# Altium integrated library Motorola Microcontroller 16-Bit.IntLib: 323 symbols (part 5 of 21)
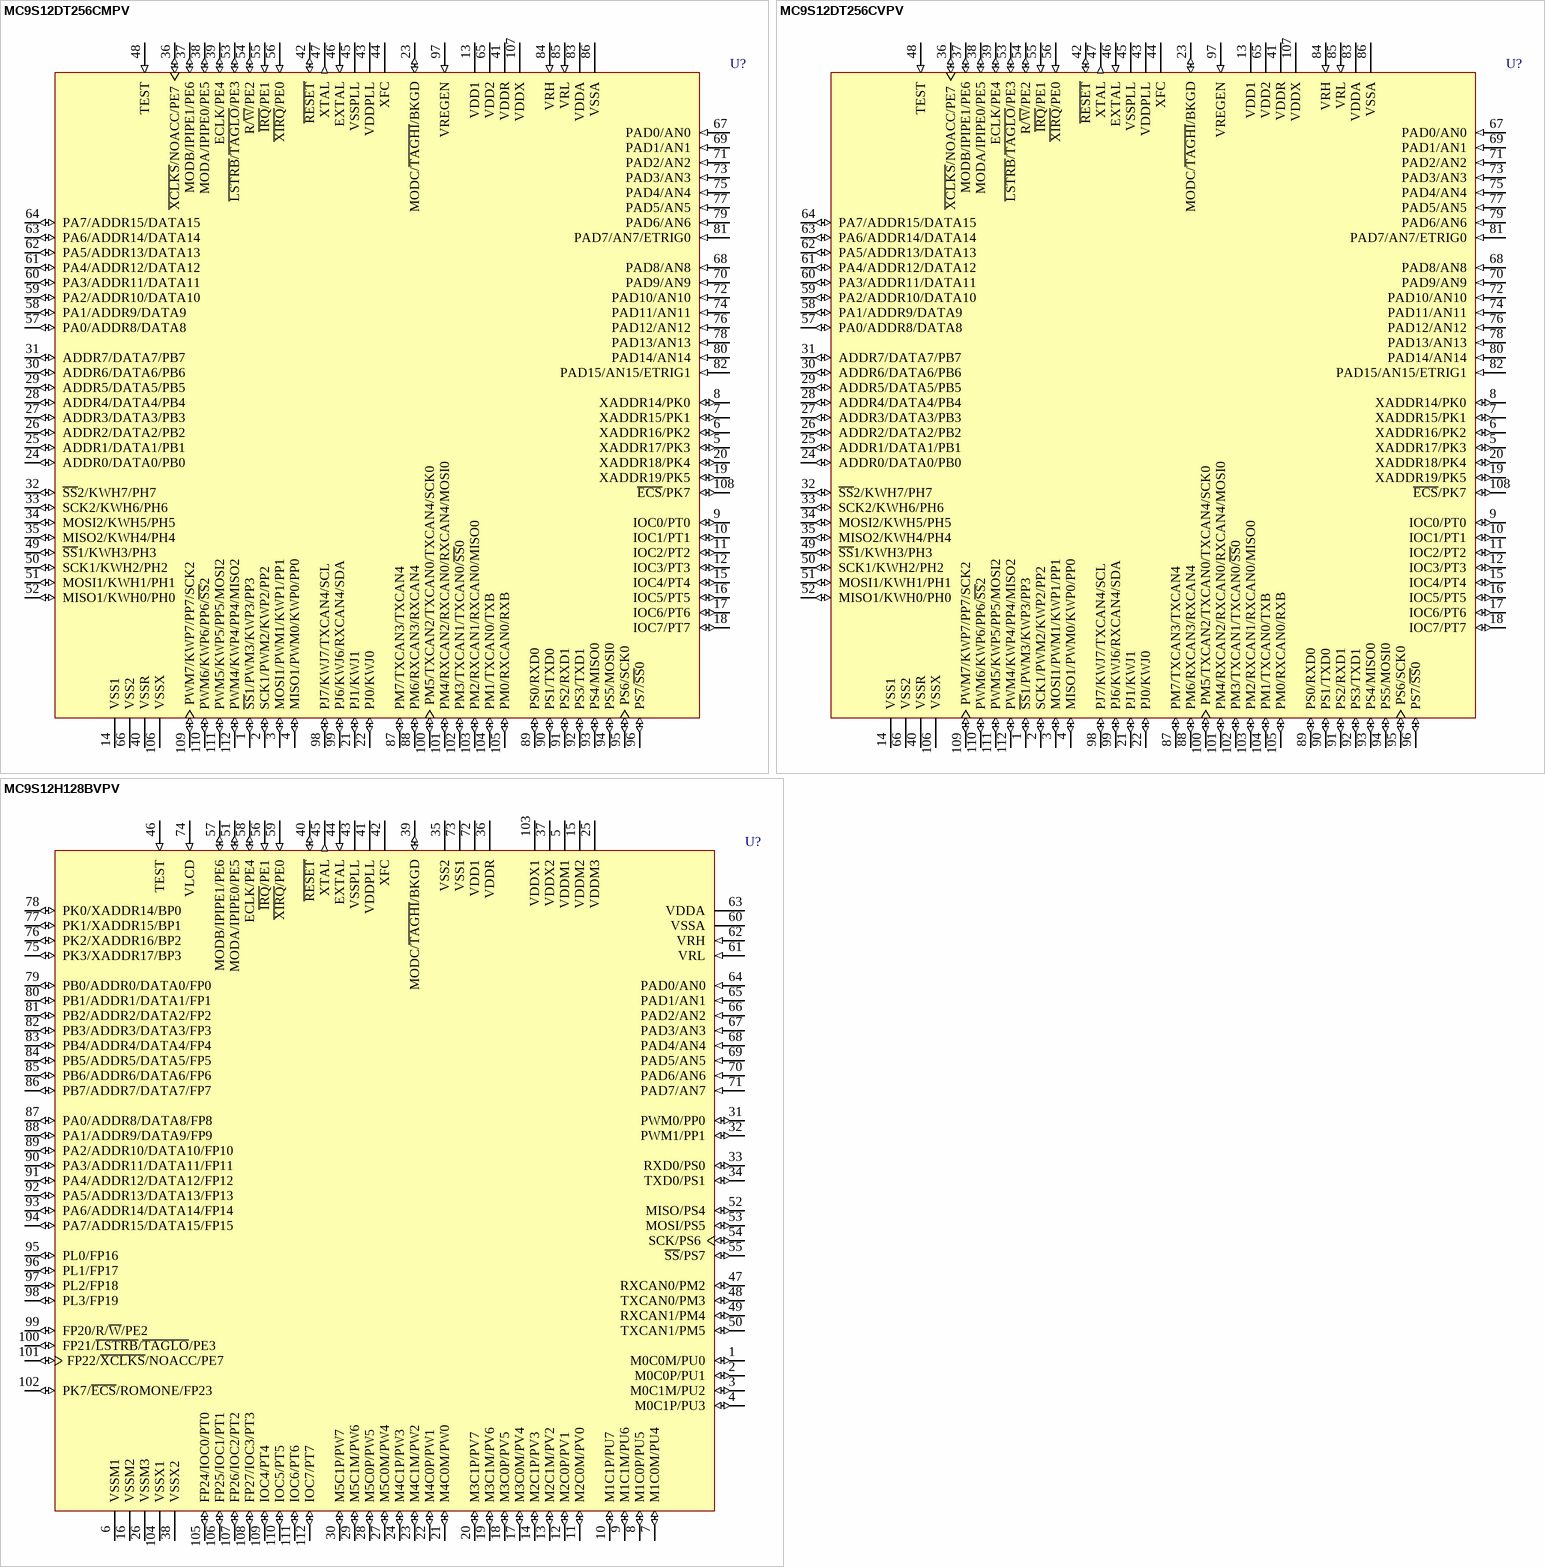
[diagram p145: symbols MC9S12DT256CMPV to MC9S12H128BVPV]

## MC9S12DT256CVPV
designator U?
16-Bit Microcontroller; PackageDocument: rev3.1, Nov-2000; Published: 21-Mar-2003; LatestRevisionDate: 6-Jun-2005; LatestRevisionNote: Stylized 3D Model Added.; DatasheetDocument: 12-Aug-2002; PackageReference: 987-01; Publisher: Altium Limited; ComponentLink1Description: Manufacturer Link; ComponentLink1URL: http://www.freescale.com/; ComponentLink2Description: Datasheet; ComponentLink2URL: http://www.freescale.com/files/microcontrollers/doc/data_sheet/9S12DP256BDGV2.pdf
footprint 987-01 (QFP; 112 Leads; Body 20 x 20 mm; Pitch 0.65 mm)
3D model MC9S12-987-01 (QFP; 112 Leads; Body 20 x 20 mm; Pitch 0.65 mm)
pins: 1 ~{SS}1/PWM3/KWP3/PP3 (io), 2 SCK1/PWM2/KWP2/PP2 (io), 3 MOSI1/PWM1/KWP1/PP1 (io), 4 MISO1/PWM0/KWP0/PP0 (io), 5 XADDR17/PK3 (io), 6 XADDR16/PK2 (io), 7 XADDR15/PK1 (io), 8 XADDR14/PK0 (io), 9 IOC0/PT0 (io), 10 IOC1/PT1 (io), 11 IOC2/PT2 (io), 12 IOC3/PT3 (io), 13 VDD1 (power), 14 VSS1 (power), 15 IOC4/PT4 (io), 16 IOC5/PT5 (io), 17 IOC6/PT6 (io), 18 IOC7/PT7 (io), 19 XADDR19/PK5 (io), 20 XADDR18/PK4 (io), 21 PJ1/KWJ1 (io), 22 PJ0/KWJ0 (io), 23 MODC/~{TAGHI}/BKGD (io), 24 ADDR0/DATA0/PB0 (io), 25 ADDR1/DATA1/PB1 (io), 26 ADDR2/DATA2/PB2 (io), 27 ADDR3/DATA3/PB3 (io), 28 ADDR4/DATA4/PB4 (io), 29 ADDR5/DATA5/PB5 (io), 30 ADDR6/DATA6/PB6 (io), 31 ADDR7/DATA7/PB7 (io), 32 ~{SS}2/KWH7/PH7 (io), 33 SCK2/KWH6/PH6 (io), 34 MOSI2/KWH5/PH5 (io), 35 MISO2/KWH4/PH4 (io), 36 ~{XCLKS}/NOACC/PE7 (io), 37 MODB/IPIPE1/PE6 (io), 38 MODA/IPIPE0/PE5 (io), 39 ECLK/PE4 (io), 40 VSSR (power), 41 VDDR (power), 42 ~{RESET} (io), 43 VDDPLL (power), 44 XFC, 45 VSSPLL (power), 46 EXTAL (in), 47 XTAL (out), 48 TEST (in), 49 ~{SS}1/KWH3/PH3 (io), 50 SCK1/KWH2/PH2 (io), 51 MOSI1/KWH1/PH1 (io), 52 MISO1/KWH0/PH0 (io), 53 ~{LSTRB}/~{TAGLO}/PE3 (io), 54 R/~{W}/PE2 (io), 55 ~{IRQ}/PE1 (in), 56 ~{XIRQ}/PE0 (in), 57 PA0/ADDR8/DATA8 (io), 58 PA1/ADDR9/DATA9 (io), 59 PA2/ADDR10/DATA10 (io), 60 PA3/ADDR11/DATA11 (io), 61 PA4/ADDR12/DATA12 (io), 62 PA5/ADDR13/DATA13 (io), 63 PA6/ADDR14/DATA14 (io), 64 PA7/ADDR15/DATA15 (io), 65 VDD2 (power), 66 VSS2 (power), 67 PAD0/AN0 (in), 68 PAD8/AN8 (in), 69 PAD1/AN1 (in), 70 PAD9/AN9 (in), 71 PAD2/AN2 (in), 72 PAD10/AN10 (in), 73 PAD3/AN3 (in), 74 PAD11/AN11 (in), 75 PAD4/AN4 (in), 76 PAD12/AN12 (in), 77 PAD5/AN5 (in), 78 PAD13/AN13 (in), 79 PAD6/AN6 (in), 80 PAD14/AN14 (in), 81 PAD7/AN7/ETRIG0 (in), 82 PAD15/AN15/ETRIG1 (in), 83 VDDA (power), 84 VRH (in), 85 VRL (in), 86 VSSA (power), 87 PM7/TXCAN3/TXCAN4 (io), 88 PM6/RXCAN3/RXCAN4 (io), 89 PS0/RXD0 (io), 90 PS1/TXD0 (io), 91 PS2/RXD1 (io), 92 PS3/TXD1 (io), 93 PS4/MISO0 (io), 94 PS5/MOSI0 (io), 95 PS6/SCK0 (io), 96 PS7/~{SS}0 (io), 97 VREGEN (in), 98 PJ7/KWJ7/TXCAN4/SCL (io), 99 PJ6/KWJ6/RXCAN4/SDA (io), 100 PM5/TXCAN2/TXCAN0/TXCAN4/SCK0 (io), 101 PM4/RXCAN2/RXCAN0/RXCAN4/MOSI0 (io), 102 PM3/TXCAN1/TXCAN0/~{SS}0 (io), 103 PM2/RXCAN1/RXCAN0/MISO0 (io), 104 PM1/TXCAN0/TXB (io), 105 PM0/RXCAN0/RXB (io), 106 VSSX (power), 107 VDDX (power), 108 ~{ECS}/PK7 (io), 109 PWM7/KWP7/PP7/SCK2 (io), 110 PWM6/KWP6/PP6/~{SS}2 (io), 111 PWM5/KWP5/PP5/MOSI2 (io), 112 PWM4/KWP4/PP4/MISO2 (io)

## MC9S12H128BVPV
designator U?
16-Bit Microcontroller; PackageDocument: rev3.1, Nov-2000; Note: Tie Pin 46 (TEST) to VSS in all applications.; Published: 21-Mar-2003; LatestRevisionDate: 6-Jun-2005; LatestRevisionNote: Stylized 3D Model Added.; DatasheetDocument: 8-Mar-2002; PackageReference: 987-01; Publisher: Altium Limited; ComponentLink1Description: Manufacturer Link; ComponentLink1URL: http://www.freescale.com/
footprint 987-01 (QFP; 112 Leads; Body 20 x 20 mm; Pitch 0.65 mm)
3D model MC9S12-987-01 (QFP; 112 Leads; Body 20 x 20 mm; Pitch 0.65 mm)
pins: 1 M0C0M/PU0 (io), 2 M0C0P/PU1 (io), 3 M0C1M/PU2 (io), 4 M0C1P/PU3 (io), 5 VDDM1 (power), 6 VSSM1 (power), 7 M1C0M/PU4 (io), 8 M1C0P/PU5 (io), 9 M1C1M/PU6 (io), 10 M1C1P/PU7 (io), 11 M2C0M/PV0 (io), 12 M2C0P/PV1 (io), 13 M2C1M/PV2 (io), 14 M2C1P/PV3 (io), 15 VDDM2 (power), 16 VSSM2 (power), 17 M3C0M/PV4 (io), 18 M3C0P/PV5 (io), 19 M3C1M/PV6 (io), 20 M3C1P/PV7 (io), 21 M4C0M/PW0 (io), 22 M4C0P/PW1 (io), 23 M4C1M/PW2 (io), 24 M4C1P/PW3 (io), 25 VDDM3 (power), 26 VSSM3 (power), 27 M5C0M/PW4 (io), 28 M5C0P/PW5 (io), 29 M5C1M/PW6 (io), 30 M5C1P/PW7 (io), 31 PWM0/PP0 (io), 32 PWM1/PP1 (io), 33 RXD0/PS0 (io), 34 TXD0/PS1 (io), 35 VSS2 (power), 36 VDDR (power), 37 VDDX2 (power), 38 VSSX2 (power), 39 MODC/~{TAGHI}/BKGD (io), 40 ~{RESET} (io), 41 VDDPLL (power), 42 XFC, 43 VSSPLL (power), 44 EXTAL (in), 45 XTAL (out), 46 TEST (in), 47 RXCAN0/PM2 (io), 48 TXCAN0/PM3 (io), 49 RXCAN1/PM4 (io), 50 TXCAN1/PM5 (io), 51 MODA/IPIPE0/PE5 (io), 52 MISO/PS4 (io), 53 MOSI/PS5 (io), 54 SCK/PS6 (io), 55 ~{SS}/PS7 (io), 56 ~{IRQ}/PE1 (in), 57 MODB/IPIPE1/PE6 (io), 58 ECLK/PE4 (io), 59 ~{XIRQ}/PE0 (in), 60 VSSA (power), 61 VRL (in), 62 VRH (in), 63 VDDA (power), 64 PAD0/AN0 (in), 65 PAD1/AN1 (in), 66 PAD2/AN2 (in), 67 PAD3/AN3 (in), 68 PAD4/AN4 (in), 69 PAD5/AN5 (in), 70 PAD6/AN6 (in), 71 PAD7/AN7 (in), 72 VDD1 (power), 73 VSS1 (power), 74 VLCD (in), 75 PK3/XADDR17/BP3 (io), 76 PK2/XADDR16/BP2 (io), 77 PK1/XADDR15/BP1 (io), 78 PK0/XADDR14/BP0 (io), 79 PB0/ADDR0/DATA0/FP0 (io), 80 PB1/ADDR1/DATA1/FP1 (io), 81 PB2/ADDR2/DATA2/FP2 (io), 82 PB3/ADDR3/DATA3/FP3 (io), 83 PB4/ADDR4/DATA4/FP4 (io), 84 PB5/ADDR5/DATA5/FP5 (io), 85 PB6/ADDR6/DATA6/FP6 (io), 86 PB7/ADDR7/DATA7/FP7 (io), 87 PA0/ADDR8/DATA8/FP8 (io), 88 PA1/ADDR9/DATA9/FP9 (io), 89 PA2/ADDR10/DATA10/FP10 (io), 90 PA3/ADDR11/DATA11/FP11 (io), 91 PA4/ADDR12/DATA12/FP12 (io), 92 PA5/ADDR13/DATA13/FP13 (io), 93 PA6/ADDR14/DATA14/FP14 (io), 94 PA7/ADDR15/DATA15/FP15 (io), 95 PL0/FP16 (io), 96 PL1/FP17 (io), 97 PL2/FP18 (io), 98 PL3/FP19 (io), 99 FP20/R/~{W}/PE2 (io), 100 FP21/~{LSTRB}/~{TAGLO}/PE3 (io), 101 FP22/~{XCLKS}/NOACC/PE7 (io), 102 PK7/~{ECS}/ROMONE/FP23 (io), 103 VDDX1 (power), 104 VSSX1 (power), 105 FP24/IOC0/PT0 (io), 106 FP25/IOC1/PT1 (io), 107 FP26/IOC2/PT2 (io), 108 FP27/IOC3/PT3 (io), 109 IOC4/PT4 (io), 110 IOC5/PT5 (io), 111 IOC6/PT6 (io), 112 IOC7/PT7 (io)

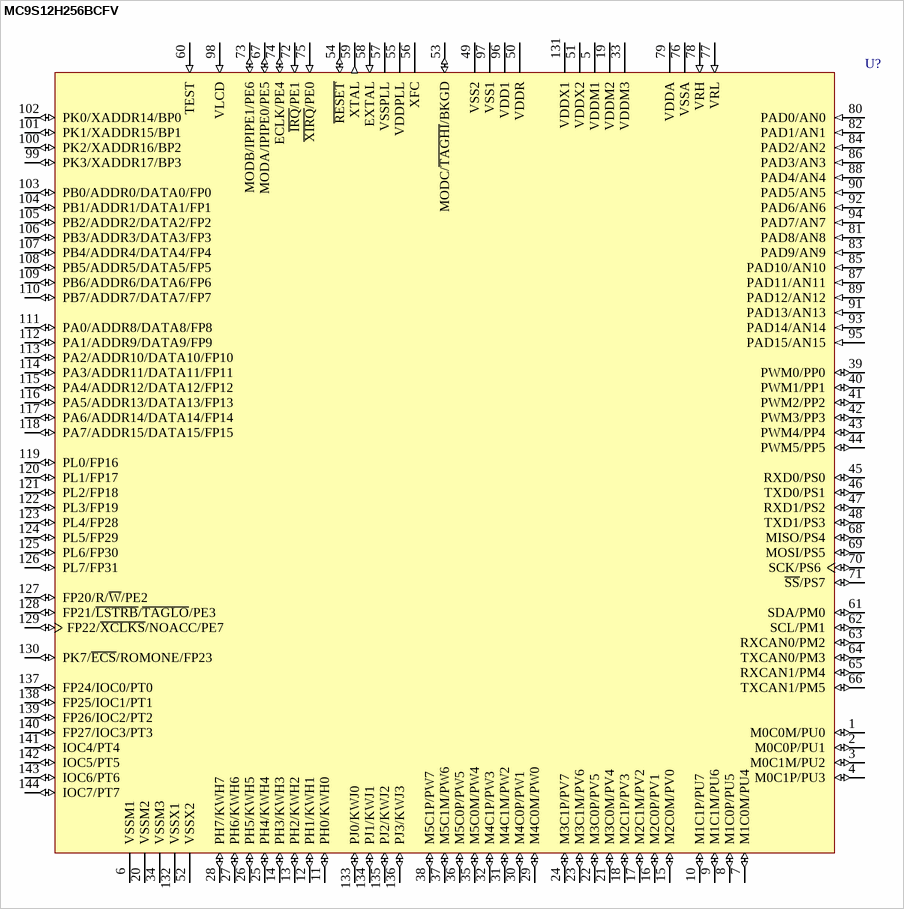
[diagram p18: symbol MC9S12H256BCFV]

## MC9S12H256BCFV
designator U?
16-Bit Microcontroller; PackageDocument: rev7, Jan-2002; Note: Tie Pin 60 (TEST) to VSS in all applications.; Published: 21-Mar-2003; LatestRevisionDate: 6-Jun-2005; LatestRevisionNote: Stylized 3D Model Added.; DatasheetDocument: 8-Mar-2002; PackageReference: 918-03; Publisher: Altium Limited; Code_IPC: SQFP20X20-144; ComponentLink1Description: Manufacturer Link; ComponentLink1URL: http://www.freescale.com/
footprint 918-03 (QFP; 144 Leads; Body 20 x 20 mm; Pitch 0.5 mm)
3D model MC9S12-918-03 (QFP; 144 Leads; Body 20 x 20 mm; Pitch 0.5 mm)
pins: 1 M0C0M/PU0 (io), 2 M0C0P/PU1 (io), 3 M0C1M/PU2 (io), 4 M0C1P/PU3 (io), 5 VDDM1 (power), 6 VSSM1 (power), 7 M1C0M/PU4 (io), 8 M1C0P/PU5 (io), 9 M1C1M/PU6 (io), 10 M1C1P/PU7 (io), 11 PH0/KWH0 (io), 12 PH1/KWH1 (io), 13 PH2/KWH2 (io), 14 PH3/KWH3 (io), 15 M2C0M/PV0 (io), 16 M2C0P/PV1 (io), 17 M2C1M/PV2 (io), 18 M2C1P/PV3 (io), 19 VDDM2 (power), 20 VSSM2 (power), 21 M3C0M/PV4 (io), 22 M3C0P/PV5 (io), 23 M3C1M/PV6 (io), 24 M3C1P/PV7 (io), 25 PH4/KWH4 (io), 26 PH5/KWH5 (io), 27 PH6/KWH6 (io), 28 PH7/KWH7 (io), 29 M4C0M/PW0 (io), 30 M4C0P/PW1 (io), 31 M4C1M/PW2 (io), 32 M4C1P/PW3 (io), 33 VDDM3 (power), 34 VSSM3 (power), 35 M5C0M/PW4 (io), 36 M5C0P/PW5 (io), 37 M5C1M/PW6 (io), 38 M5C1P/PW7 (io), 39 PWM0/PP0 (io), 40 PWM1/PP1 (io), 41 PWM2/PP2 (io), 42 PWM3/PP3 (io), 43 PWM4/PP4 (io), 44 PWM5/PP5 (io), 45 RXD0/PS0 (io), 46 TXD0/PS1 (io), 47 RXD1/PS2 (io), 48 TXD1/PS3 (io), 49 VSS2 (power), 50 VDDR (power), 51 VDDX2 (power), 52 VSSX2 (power), 53 MODC/~{TAGHI}/BKGD (io), 54 ~{RESET} (io), 55 VDDPLL (power), 56 XFC, 57 VSSPLL (power), 58 EXTAL (in), 59 XTAL (out), 60 TEST (in), 61 SDA/PM0 (io), 62 SCL/PM1 (io), 63 RXCAN0/PM2 (io), 64 TXCAN0/PM3 (io), 65 RXCAN1/PM4 (io), 66 TXCAN1/PM5 (io), 67 MODA/IPIPE0/PE5 (io), 68 MISO/PS4 (io), 69 MOSI/PS5 (io), 70 SCK/PS6 (io), 71 ~{SS}/PS7 (io), 72 ~{IRQ}/PE1 (in), 73 MODB/IPIPE1/PE6 (io), 74 ECLK/PE4 (io), 75 ~{XIRQ}/PE0 (in), 76 VSSA (power), 77 VRL (in), 78 VRH (in), 79 VDDA (power), 80 PAD0/AN0 (in), 81 PAD8/AN8 (in), 82 PAD1/AN1 (in), 83 PAD9/AN9 (in), 84 PAD2/AN2 (in), 85 PAD10/AN10 (in), 86 PAD3/AN3 (in), 87 PAD11/AN11 (in), 88 PAD4/AN4 (in), 89 PAD12/AN12 (in), 90 PAD5/AN5 (in), 91 PAD13/AN13 (in), 92 PAD6/AN6 (in), 93 PAD14/AN14 (in), 94 PAD7/AN7 (in), 95 PAD15/AN15 (in), 96 VDD1 (power), 97 VSS1 (power), 98 VLCD (in), 99 PK3/XADDR17/BP3 (io), 100 PK2/XADDR16/BP2 (io), 101 PK1/XADDR15/BP1 (io), 102 PK0/XADDR14/BP0 (io), 103 PB0/ADDR0/DATA0/FP0 (io), 104 PB1/ADDR1/DATA1/FP1 (io), 105 PB2/ADDR2/DATA2/FP2 (io), 106 PB3/ADDR3/DATA3/FP3 (io), 107 PB4/ADDR4/DATA4/FP4 (io), 108 PB5/ADDR5/DATA5/FP5 (io), 109 PB6/ADDR6/DATA6/FP6 (io), 110 PB7/ADDR7/DATA7/FP7 (io), 111 PA0/ADDR8/DATA8/FP8 (io), 112 PA1/ADDR9/DATA9/FP9 (io), 113 PA2/ADDR10/DATA10/FP10 (io), 114 PA3/ADDR11/DATA11/FP11 (io), 115 PA4/ADDR12/DATA12/FP12 (io), 116 PA5/ADDR13/DATA13/FP13 (io), 117 PA6/ADDR14/DATA14/FP14 (io), 118 PA7/ADDR15/DATA15/FP15 (io), 119 PL0/FP16 (io), 120 PL1/FP17 (io), 121 PL2/FP18 (io), 122 PL3/FP19 (io), 123 PL4/FP28 (io), 124 PL5/FP29 (io), 125 PL6/FP30 (io), 126 PL7/FP31 (io), 127 FP20/R/~{W}/PE2 (io), 128 FP21/~{LSTRB}/~{TAGLO}/PE3 (io), 129 FP22/~{XCLKS}/NOACC/PE7 (io), 130 PK7/~{ECS}/ROMONE/FP23 (io), 131 VDDX1 (power), 132 VSSX1 (power), 133 PJ0/KWJ0 (io), 134 PJ1/KWJ1 (io), 135 PJ2/KWJ2 (io), 136 PJ3/KWJ3 (io), 137 FP24/IOC0/PT0 (io), 138 FP25/IOC1/PT1 (io), 139 FP26/IOC2/PT2 (io), 140 FP27/IOC3/PT3 (io), 141 IOC4/PT4 (io), 142 IOC5/PT5 (io), 143 IOC6/PT6 (io), 144 IOC7/PT7 (io)

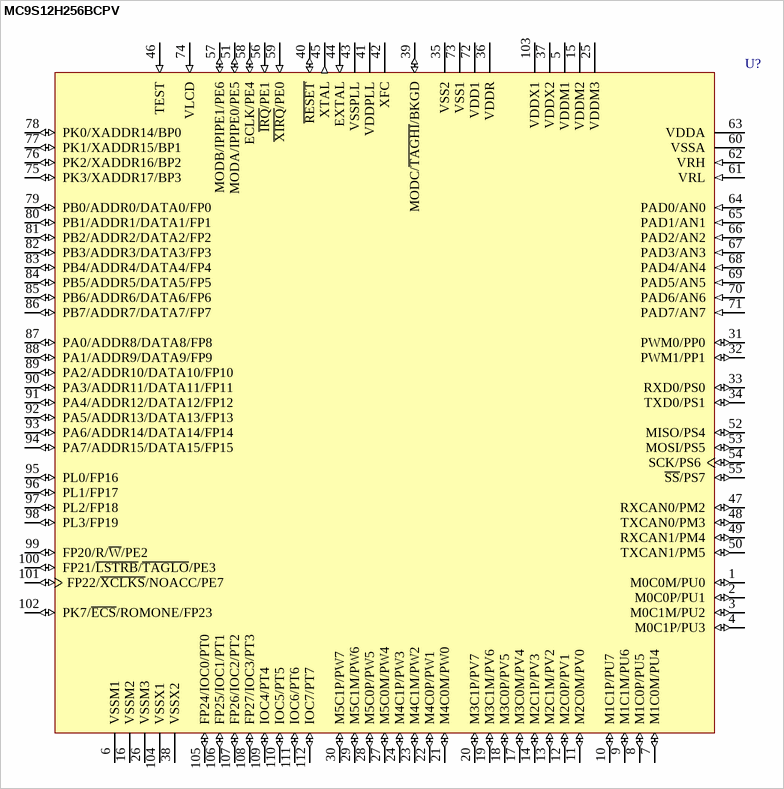
[diagram p19: symbol MC9S12H256BCPV]

## MC9S12H256BCPV
designator U?
16-Bit Microcontroller; PackageDocument: rev3.1, Nov-2000; Note: Tie Pin 46 (TEST) to VSS in all applications.; Published: 21-Mar-2003; LatestRevisionDate: 6-Jun-2005; LatestRevisionNote: Stylized 3D Model Added.; DatasheetDocument: 8-Mar-2002; PackageReference: 987-01; Publisher: Altium Limited; ComponentLink1Description: Manufacturer Link; ComponentLink1URL: http://www.freescale.com/
footprint 987-01 (QFP; 112 Leads; Body 20 x 20 mm; Pitch 0.65 mm)
3D model MC9S12-987-01 (QFP; 112 Leads; Body 20 x 20 mm; Pitch 0.65 mm)
pins: 1 M0C0M/PU0 (io), 2 M0C0P/PU1 (io), 3 M0C1M/PU2 (io), 4 M0C1P/PU3 (io), 5 VDDM1 (power), 6 VSSM1 (power), 7 M1C0M/PU4 (io), 8 M1C0P/PU5 (io), 9 M1C1M/PU6 (io), 10 M1C1P/PU7 (io), 11 M2C0M/PV0 (io), 12 M2C0P/PV1 (io), 13 M2C1M/PV2 (io), 14 M2C1P/PV3 (io), 15 VDDM2 (power), 16 VSSM2 (power), 17 M3C0M/PV4 (io), 18 M3C0P/PV5 (io), 19 M3C1M/PV6 (io), 20 M3C1P/PV7 (io), 21 M4C0M/PW0 (io), 22 M4C0P/PW1 (io), 23 M4C1M/PW2 (io), 24 M4C1P/PW3 (io), 25 VDDM3 (power), 26 VSSM3 (power), 27 M5C0M/PW4 (io), 28 M5C0P/PW5 (io), 29 M5C1M/PW6 (io), 30 M5C1P/PW7 (io), 31 PWM0/PP0 (io), 32 PWM1/PP1 (io), 33 RXD0/PS0 (io), 34 TXD0/PS1 (io), 35 VSS2 (power), 36 VDDR (power), 37 VDDX2 (power), 38 VSSX2 (power), 39 MODC/~{TAGHI}/BKGD (io), 40 ~{RESET} (io), 41 VDDPLL (power), 42 XFC, 43 VSSPLL (power), 44 EXTAL (in), 45 XTAL (out), 46 TEST (in), 47 RXCAN0/PM2 (io), 48 TXCAN0/PM3 (io), 49 RXCAN1/PM4 (io), 50 TXCAN1/PM5 (io), 51 MODA/IPIPE0/PE5 (io), 52 MISO/PS4 (io), 53 MOSI/PS5 (io), 54 SCK/PS6 (io), 55 ~{SS}/PS7 (io), 56 ~{IRQ}/PE1 (in), 57 MODB/IPIPE1/PE6 (io), 58 ECLK/PE4 (io), 59 ~{XIRQ}/PE0 (in), 60 VSSA (power), 61 VRL (in), 62 VRH (in), 63 VDDA (power), 64 PAD0/AN0 (in), 65 PAD1/AN1 (in), 66 PAD2/AN2 (in), 67 PAD3/AN3 (in), 68 PAD4/AN4 (in), 69 PAD5/AN5 (in), 70 PAD6/AN6 (in), 71 PAD7/AN7 (in), 72 VDD1 (power), 73 VSS1 (power), 74 VLCD (in), 75 PK3/XADDR17/BP3 (io), 76 PK2/XADDR16/BP2 (io), 77 PK1/XADDR15/BP1 (io), 78 PK0/XADDR14/BP0 (io), 79 PB0/ADDR0/DATA0/FP0 (io), 80 PB1/ADDR1/DATA1/FP1 (io), 81 PB2/ADDR2/DATA2/FP2 (io), 82 PB3/ADDR3/DATA3/FP3 (io), 83 PB4/ADDR4/DATA4/FP4 (io), 84 PB5/ADDR5/DATA5/FP5 (io), 85 PB6/ADDR6/DATA6/FP6 (io), 86 PB7/ADDR7/DATA7/FP7 (io), 87 PA0/ADDR8/DATA8/FP8 (io), 88 PA1/ADDR9/DATA9/FP9 (io), 89 PA2/ADDR10/DATA10/FP10 (io), 90 PA3/ADDR11/DATA11/FP11 (io), 91 PA4/ADDR12/DATA12/FP12 (io), 92 PA5/ADDR13/DATA13/FP13 (io), 93 PA6/ADDR14/DATA14/FP14 (io), 94 PA7/ADDR15/DATA15/FP15 (io), 95 PL0/FP16 (io), 96 PL1/FP17 (io), 97 PL2/FP18 (io), 98 PL3/FP19 (io), 99 FP20/R/~{W}/PE2 (io), 100 FP21/~{LSTRB}/~{TAGLO}/PE3 (io), 101 FP22/~{XCLKS}/NOACC/PE7 (io), 102 PK7/~{ECS}/ROMONE/FP23 (io), 103 VDDX1 (power), 104 VSSX1 (power), 105 FP24/IOC0/PT0 (io), 106 FP25/IOC1/PT1 (io), 107 FP26/IOC2/PT2 (io), 108 FP27/IOC3/PT3 (io), 109 IOC4/PT4 (io), 110 IOC5/PT5 (io), 111 IOC6/PT6 (io), 112 IOC7/PT7 (io)

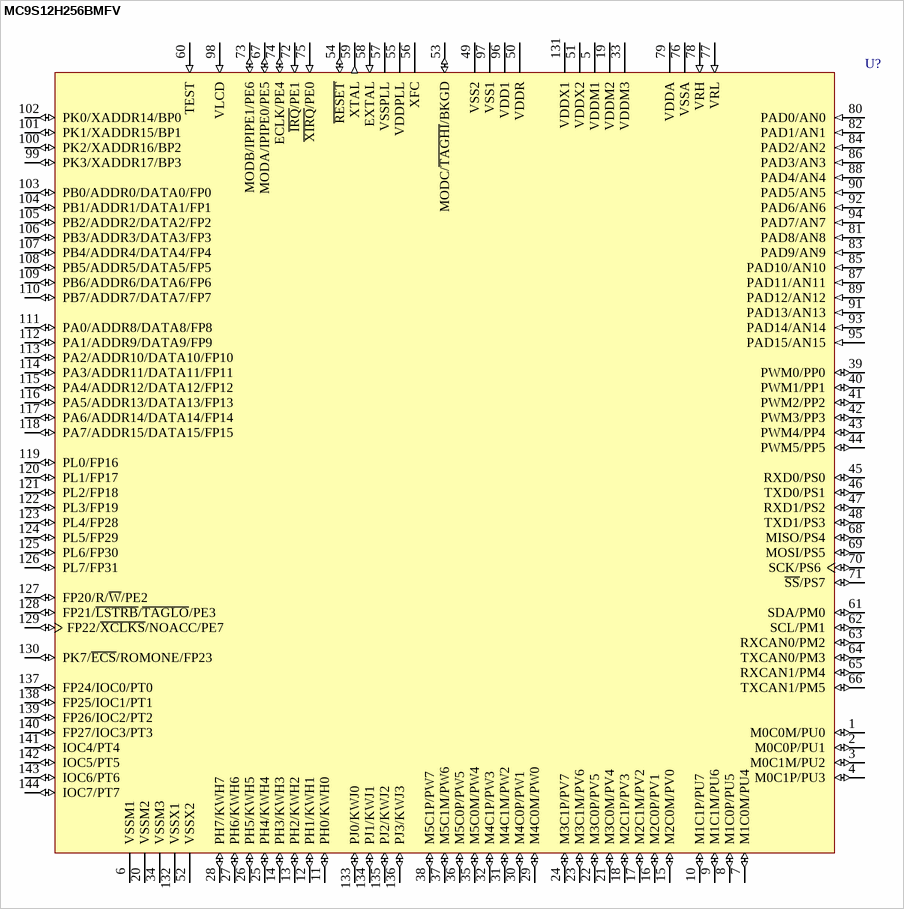
[diagram p20: symbol MC9S12H256BMFV]

## MC9S12H256BMFV
designator U?
16-Bit Microcontroller; PackageDocument: rev7, Jan-2002; Note: Tie Pin 60 (TEST) to VSS in all applications.; Published: 21-Mar-2003; LatestRevisionDate: 6-Jun-2005; LatestRevisionNote: Stylized 3D Model Added.; DatasheetDocument: 8-Mar-2002; PackageReference: 918-03; Publisher: Altium Limited; Code_IPC: SQFP20X20-144; ComponentLink1Description: Manufacturer Link; ComponentLink1URL: http://www.freescale.com/
footprint 918-03 (QFP; 144 Leads; Body 20 x 20 mm; Pitch 0.5 mm)
3D model MC9S12-918-03 (QFP; 144 Leads; Body 20 x 20 mm; Pitch 0.5 mm)
pins: 1 M0C0M/PU0 (io), 2 M0C0P/PU1 (io), 3 M0C1M/PU2 (io), 4 M0C1P/PU3 (io), 5 VDDM1 (power), 6 VSSM1 (power), 7 M1C0M/PU4 (io), 8 M1C0P/PU5 (io), 9 M1C1M/PU6 (io), 10 M1C1P/PU7 (io), 11 PH0/KWH0 (io), 12 PH1/KWH1 (io), 13 PH2/KWH2 (io), 14 PH3/KWH3 (io), 15 M2C0M/PV0 (io), 16 M2C0P/PV1 (io), 17 M2C1M/PV2 (io), 18 M2C1P/PV3 (io), 19 VDDM2 (power), 20 VSSM2 (power), 21 M3C0M/PV4 (io), 22 M3C0P/PV5 (io), 23 M3C1M/PV6 (io), 24 M3C1P/PV7 (io), 25 PH4/KWH4 (io), 26 PH5/KWH5 (io), 27 PH6/KWH6 (io), 28 PH7/KWH7 (io), 29 M4C0M/PW0 (io), 30 M4C0P/PW1 (io), 31 M4C1M/PW2 (io), 32 M4C1P/PW3 (io), 33 VDDM3 (power), 34 VSSM3 (power), 35 M5C0M/PW4 (io), 36 M5C0P/PW5 (io), 37 M5C1M/PW6 (io), 38 M5C1P/PW7 (io), 39 PWM0/PP0 (io), 40 PWM1/PP1 (io), 41 PWM2/PP2 (io), 42 PWM3/PP3 (io), 43 PWM4/PP4 (io), 44 PWM5/PP5 (io), 45 RXD0/PS0 (io), 46 TXD0/PS1 (io), 47 RXD1/PS2 (io), 48 TXD1/PS3 (io), 49 VSS2 (power), 50 VDDR (power), 51 VDDX2 (power), 52 VSSX2 (power), 53 MODC/~{TAGHI}/BKGD (io), 54 ~{RESET} (io), 55 VDDPLL (power), 56 XFC, 57 VSSPLL (power), 58 EXTAL (in), 59 XTAL (out), 60 TEST (in), 61 SDA/PM0 (io), 62 SCL/PM1 (io), 63 RXCAN0/PM2 (io), 64 TXCAN0/PM3 (io), 65 RXCAN1/PM4 (io), 66 TXCAN1/PM5 (io), 67 MODA/IPIPE0/PE5 (io), 68 MISO/PS4 (io), 69 MOSI/PS5 (io), 70 SCK/PS6 (io), 71 ~{SS}/PS7 (io), 72 ~{IRQ}/PE1 (in), 73 MODB/IPIPE1/PE6 (io), 74 ECLK/PE4 (io), 75 ~{XIRQ}/PE0 (in), 76 VSSA (power), 77 VRL (in), 78 VRH (in), 79 VDDA (power), 80 PAD0/AN0 (in), 81 PAD8/AN8 (in), 82 PAD1/AN1 (in), 83 PAD9/AN9 (in), 84 PAD2/AN2 (in), 85 PAD10/AN10 (in), 86 PAD3/AN3 (in), 87 PAD11/AN11 (in), 88 PAD4/AN4 (in), 89 PAD12/AN12 (in), 90 PAD5/AN5 (in), 91 PAD13/AN13 (in), 92 PAD6/AN6 (in), 93 PAD14/AN14 (in), 94 PAD7/AN7 (in), 95 PAD15/AN15 (in), 96 VDD1 (power), 97 VSS1 (power), 98 VLCD (in), 99 PK3/XADDR17/BP3 (io), 100 PK2/XADDR16/BP2 (io), 101 PK1/XADDR15/BP1 (io), 102 PK0/XADDR14/BP0 (io), 103 PB0/ADDR0/DATA0/FP0 (io), 104 PB1/ADDR1/DATA1/FP1 (io), 105 PB2/ADDR2/DATA2/FP2 (io), 106 PB3/ADDR3/DATA3/FP3 (io), 107 PB4/ADDR4/DATA4/FP4 (io), 108 PB5/ADDR5/DATA5/FP5 (io), 109 PB6/ADDR6/DATA6/FP6 (io), 110 PB7/ADDR7/DATA7/FP7 (io), 111 PA0/ADDR8/DATA8/FP8 (io), 112 PA1/ADDR9/DATA9/FP9 (io), 113 PA2/ADDR10/DATA10/FP10 (io), 114 PA3/ADDR11/DATA11/FP11 (io), 115 PA4/ADDR12/DATA12/FP12 (io), 116 PA5/ADDR13/DATA13/FP13 (io), 117 PA6/ADDR14/DATA14/FP14 (io), 118 PA7/ADDR15/DATA15/FP15 (io), 119 PL0/FP16 (io), 120 PL1/FP17 (io), 121 PL2/FP18 (io), 122 PL3/FP19 (io), 123 PL4/FP28 (io), 124 PL5/FP29 (io), 125 PL6/FP30 (io), 126 PL7/FP31 (io), 127 FP20/R/~{W}/PE2 (io), 128 FP21/~{LSTRB}/~{TAGLO}/PE3 (io), 129 FP22/~{XCLKS}/NOACC/PE7 (io), 130 PK7/~{ECS}/ROMONE/FP23 (io), 131 VDDX1 (power), 132 VSSX1 (power), 133 PJ0/KWJ0 (io), 134 PJ1/KWJ1 (io), 135 PJ2/KWJ2 (io), 136 PJ3/KWJ3 (io), 137 FP24/IOC0/PT0 (io), 138 FP25/IOC1/PT1 (io), 139 FP26/IOC2/PT2 (io), 140 FP27/IOC3/PT3 (io), 141 IOC4/PT4 (io), 142 IOC5/PT5 (io), 143 IOC6/PT6 (io), 144 IOC7/PT7 (io)

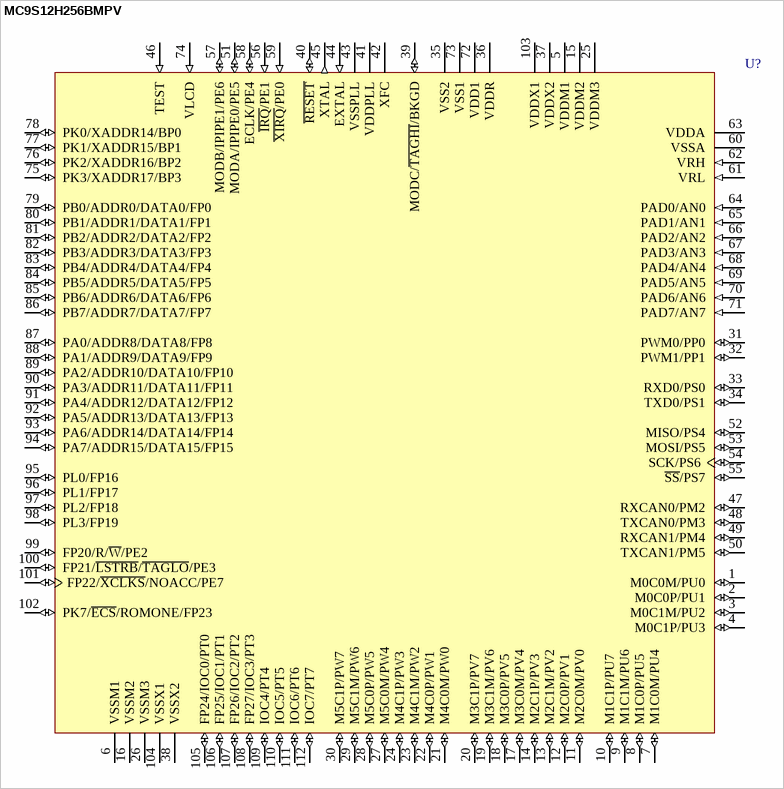
[diagram p21: symbol MC9S12H256BMPV]

## MC9S12H256BMPV
designator U?
16-Bit Microcontroller; PackageDocument: rev3.1, Nov-2000; Note: Tie Pin 46 (TEST) to VSS in all applications.; Published: 21-Mar-2003; LatestRevisionDate: 6-Jun-2005; LatestRevisionNote: Stylized 3D Model Added.; DatasheetDocument: 8-Mar-2002; PackageReference: 987-01; Publisher: Altium Limited; ComponentLink1Description: Manufacturer Link; ComponentLink1URL: http://www.freescale.com/
footprint 987-01 (QFP; 112 Leads; Body 20 x 20 mm; Pitch 0.65 mm)
3D model MC9S12-987-01 (QFP; 112 Leads; Body 20 x 20 mm; Pitch 0.65 mm)
pins: 1 M0C0M/PU0 (io), 2 M0C0P/PU1 (io), 3 M0C1M/PU2 (io), 4 M0C1P/PU3 (io), 5 VDDM1 (power), 6 VSSM1 (power), 7 M1C0M/PU4 (io), 8 M1C0P/PU5 (io), 9 M1C1M/PU6 (io), 10 M1C1P/PU7 (io), 11 M2C0M/PV0 (io), 12 M2C0P/PV1 (io), 13 M2C1M/PV2 (io), 14 M2C1P/PV3 (io), 15 VDDM2 (power), 16 VSSM2 (power), 17 M3C0M/PV4 (io), 18 M3C0P/PV5 (io), 19 M3C1M/PV6 (io), 20 M3C1P/PV7 (io), 21 M4C0M/PW0 (io), 22 M4C0P/PW1 (io), 23 M4C1M/PW2 (io), 24 M4C1P/PW3 (io), 25 VDDM3 (power), 26 VSSM3 (power), 27 M5C0M/PW4 (io), 28 M5C0P/PW5 (io), 29 M5C1M/PW6 (io), 30 M5C1P/PW7 (io), 31 PWM0/PP0 (io), 32 PWM1/PP1 (io), 33 RXD0/PS0 (io), 34 TXD0/PS1 (io), 35 VSS2 (power), 36 VDDR (power), 37 VDDX2 (power), 38 VSSX2 (power), 39 MODC/~{TAGHI}/BKGD (io), 40 ~{RESET} (io), 41 VDDPLL (power), 42 XFC, 43 VSSPLL (power), 44 EXTAL (in), 45 XTAL (out), 46 TEST (in), 47 RXCAN0/PM2 (io), 48 TXCAN0/PM3 (io), 49 RXCAN1/PM4 (io), 50 TXCAN1/PM5 (io), 51 MODA/IPIPE0/PE5 (io), 52 MISO/PS4 (io), 53 MOSI/PS5 (io), 54 SCK/PS6 (io), 55 ~{SS}/PS7 (io), 56 ~{IRQ}/PE1 (in), 57 MODB/IPIPE1/PE6 (io), 58 ECLK/PE4 (io), 59 ~{XIRQ}/PE0 (in), 60 VSSA (power), 61 VRL (in), 62 VRH (in), 63 VDDA (power), 64 PAD0/AN0 (in), 65 PAD1/AN1 (in), 66 PAD2/AN2 (in), 67 PAD3/AN3 (in), 68 PAD4/AN4 (in), 69 PAD5/AN5 (in), 70 PAD6/AN6 (in), 71 PAD7/AN7 (in), 72 VDD1 (power), 73 VSS1 (power), 74 VLCD (in), 75 PK3/XADDR17/BP3 (io), 76 PK2/XADDR16/BP2 (io), 77 PK1/XADDR15/BP1 (io), 78 PK0/XADDR14/BP0 (io), 79 PB0/ADDR0/DATA0/FP0 (io), 80 PB1/ADDR1/DATA1/FP1 (io), 81 PB2/ADDR2/DATA2/FP2 (io), 82 PB3/ADDR3/DATA3/FP3 (io), 83 PB4/ADDR4/DATA4/FP4 (io), 84 PB5/ADDR5/DATA5/FP5 (io), 85 PB6/ADDR6/DATA6/FP6 (io), 86 PB7/ADDR7/DATA7/FP7 (io), 87 PA0/ADDR8/DATA8/FP8 (io), 88 PA1/ADDR9/DATA9/FP9 (io), 89 PA2/ADDR10/DATA10/FP10 (io), 90 PA3/ADDR11/DATA11/FP11 (io), 91 PA4/ADDR12/DATA12/FP12 (io), 92 PA5/ADDR13/DATA13/FP13 (io), 93 PA6/ADDR14/DATA14/FP14 (io), 94 PA7/ADDR15/DATA15/FP15 (io), 95 PL0/FP16 (io), 96 PL1/FP17 (io), 97 PL2/FP18 (io), 98 PL3/FP19 (io), 99 FP20/R/~{W}/PE2 (io), 100 FP21/~{LSTRB}/~{TAGLO}/PE3 (io), 101 FP22/~{XCLKS}/NOACC/PE7 (io), 102 PK7/~{ECS}/ROMONE/FP23 (io), 103 VDDX1 (power), 104 VSSX1 (power), 105 FP24/IOC0/PT0 (io), 106 FP25/IOC1/PT1 (io), 107 FP26/IOC2/PT2 (io), 108 FP27/IOC3/PT3 (io), 109 IOC4/PT4 (io), 110 IOC5/PT5 (io), 111 IOC6/PT6 (io), 112 IOC7/PT7 (io)

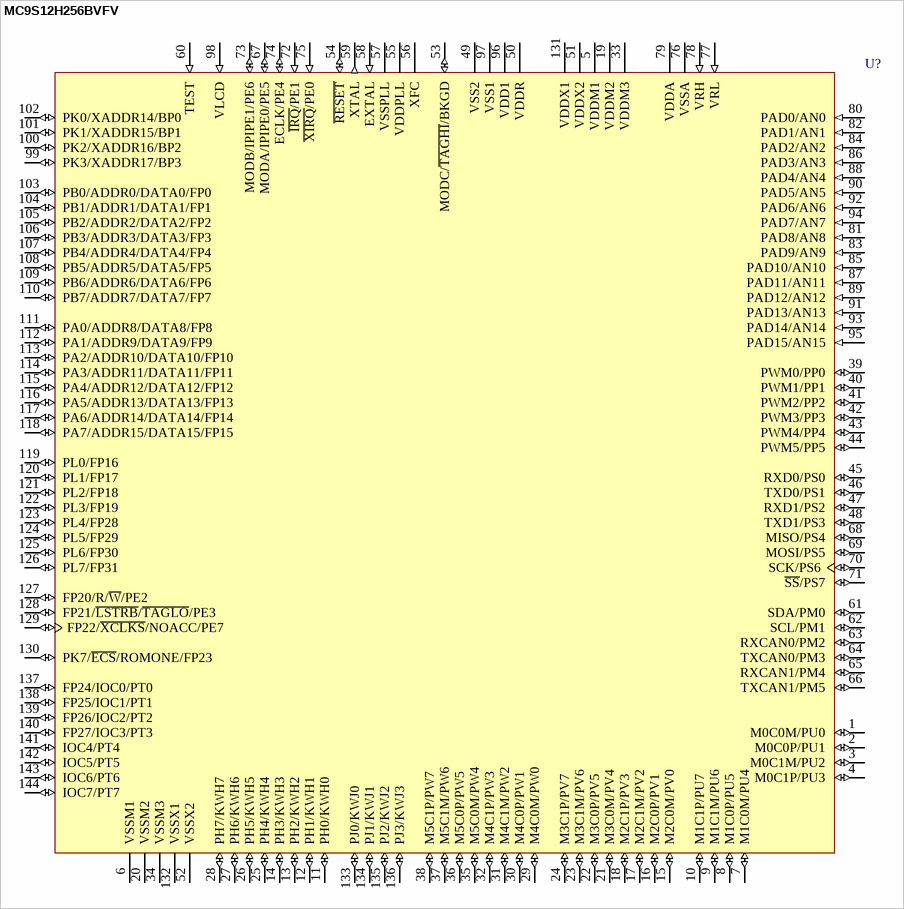
[diagram p22: symbol MC9S12H256BVFV]

## MC9S12H256BVFV
designator U?
16-Bit Microcontroller; PackageDocument: rev7, Jan-2002; Note: Tie Pin 60 (TEST) to VSS in all applications.; Published: 21-Mar-2003; LatestRevisionDate: 6-Jun-2005; LatestRevisionNote: Stylized 3D Model Added.; DatasheetDocument: 8-Mar-2002; PackageReference: 918-03; Publisher: Altium Limited; Code_IPC: SQFP20X20-144; ComponentLink1Description: Manufacturer Link; ComponentLink1URL: http://www.freescale.com/
footprint 918-03 (QFP; 144 Leads; Body 20 x 20 mm; Pitch 0.5 mm)
3D model MC9S12-918-03 (QFP; 144 Leads; Body 20 x 20 mm; Pitch 0.5 mm)
pins: 1 M0C0M/PU0 (io), 2 M0C0P/PU1 (io), 3 M0C1M/PU2 (io), 4 M0C1P/PU3 (io), 5 VDDM1 (power), 6 VSSM1 (power), 7 M1C0M/PU4 (io), 8 M1C0P/PU5 (io), 9 M1C1M/PU6 (io), 10 M1C1P/PU7 (io), 11 PH0/KWH0 (io), 12 PH1/KWH1 (io), 13 PH2/KWH2 (io), 14 PH3/KWH3 (io), 15 M2C0M/PV0 (io), 16 M2C0P/PV1 (io), 17 M2C1M/PV2 (io), 18 M2C1P/PV3 (io), 19 VDDM2 (power), 20 VSSM2 (power), 21 M3C0M/PV4 (io), 22 M3C0P/PV5 (io), 23 M3C1M/PV6 (io), 24 M3C1P/PV7 (io), 25 PH4/KWH4 (io), 26 PH5/KWH5 (io), 27 PH6/KWH6 (io), 28 PH7/KWH7 (io), 29 M4C0M/PW0 (io), 30 M4C0P/PW1 (io), 31 M4C1M/PW2 (io), 32 M4C1P/PW3 (io), 33 VDDM3 (power), 34 VSSM3 (power), 35 M5C0M/PW4 (io), 36 M5C0P/PW5 (io), 37 M5C1M/PW6 (io), 38 M5C1P/PW7 (io), 39 PWM0/PP0 (io), 40 PWM1/PP1 (io), 41 PWM2/PP2 (io), 42 PWM3/PP3 (io), 43 PWM4/PP4 (io), 44 PWM5/PP5 (io), 45 RXD0/PS0 (io), 46 TXD0/PS1 (io), 47 RXD1/PS2 (io), 48 TXD1/PS3 (io), 49 VSS2 (power), 50 VDDR (power), 51 VDDX2 (power), 52 VSSX2 (power), 53 MODC/~{TAGHI}/BKGD (io), 54 ~{RESET} (io), 55 VDDPLL (power), 56 XFC, 57 VSSPLL (power), 58 EXTAL (in), 59 XTAL (out), 60 TEST (in), 61 SDA/PM0 (io), 62 SCL/PM1 (io), 63 RXCAN0/PM2 (io), 64 TXCAN0/PM3 (io), 65 RXCAN1/PM4 (io), 66 TXCAN1/PM5 (io), 67 MODA/IPIPE0/PE5 (io), 68 MISO/PS4 (io), 69 MOSI/PS5 (io), 70 SCK/PS6 (io), 71 ~{SS}/PS7 (io), 72 ~{IRQ}/PE1 (in), 73 MODB/IPIPE1/PE6 (io), 74 ECLK/PE4 (io), 75 ~{XIRQ}/PE0 (in), 76 VSSA (power), 77 VRL (in), 78 VRH (in), 79 VDDA (power), 80 PAD0/AN0 (in), 81 PAD8/AN8 (in), 82 PAD1/AN1 (in), 83 PAD9/AN9 (in), 84 PAD2/AN2 (in), 85 PAD10/AN10 (in), 86 PAD3/AN3 (in), 87 PAD11/AN11 (in), 88 PAD4/AN4 (in), 89 PAD12/AN12 (in), 90 PAD5/AN5 (in), 91 PAD13/AN13 (in), 92 PAD6/AN6 (in), 93 PAD14/AN14 (in), 94 PAD7/AN7 (in), 95 PAD15/AN15 (in), 96 VDD1 (power), 97 VSS1 (power), 98 VLCD (in), 99 PK3/XADDR17/BP3 (io), 100 PK2/XADDR16/BP2 (io), 101 PK1/XADDR15/BP1 (io), 102 PK0/XADDR14/BP0 (io), 103 PB0/ADDR0/DATA0/FP0 (io), 104 PB1/ADDR1/DATA1/FP1 (io), 105 PB2/ADDR2/DATA2/FP2 (io), 106 PB3/ADDR3/DATA3/FP3 (io), 107 PB4/ADDR4/DATA4/FP4 (io), 108 PB5/ADDR5/DATA5/FP5 (io), 109 PB6/ADDR6/DATA6/FP6 (io), 110 PB7/ADDR7/DATA7/FP7 (io), 111 PA0/ADDR8/DATA8/FP8 (io), 112 PA1/ADDR9/DATA9/FP9 (io), 113 PA2/ADDR10/DATA10/FP10 (io), 114 PA3/ADDR11/DATA11/FP11 (io), 115 PA4/ADDR12/DATA12/FP12 (io), 116 PA5/ADDR13/DATA13/FP13 (io), 117 PA6/ADDR14/DATA14/FP14 (io), 118 PA7/ADDR15/DATA15/FP15 (io), 119 PL0/FP16 (io), 120 PL1/FP17 (io), 121 PL2/FP18 (io), 122 PL3/FP19 (io), 123 PL4/FP28 (io), 124 PL5/FP29 (io), 125 PL6/FP30 (io), 126 PL7/FP31 (io), 127 FP20/R/~{W}/PE2 (io), 128 FP21/~{LSTRB}/~{TAGLO}/PE3 (io), 129 FP22/~{XCLKS}/NOACC/PE7 (io), 130 PK7/~{ECS}/ROMONE/FP23 (io), 131 VDDX1 (power), 132 VSSX1 (power), 133 PJ0/KWJ0 (io), 134 PJ1/KWJ1 (io), 135 PJ2/KWJ2 (io), 136 PJ3/KWJ3 (io), 137 FP24/IOC0/PT0 (io), 138 FP25/IOC1/PT1 (io), 139 FP26/IOC2/PT2 (io), 140 FP27/IOC3/PT3 (io), 141 IOC4/PT4 (io), 142 IOC5/PT5 (io), 143 IOC6/PT6 (io), 144 IOC7/PT7 (io)

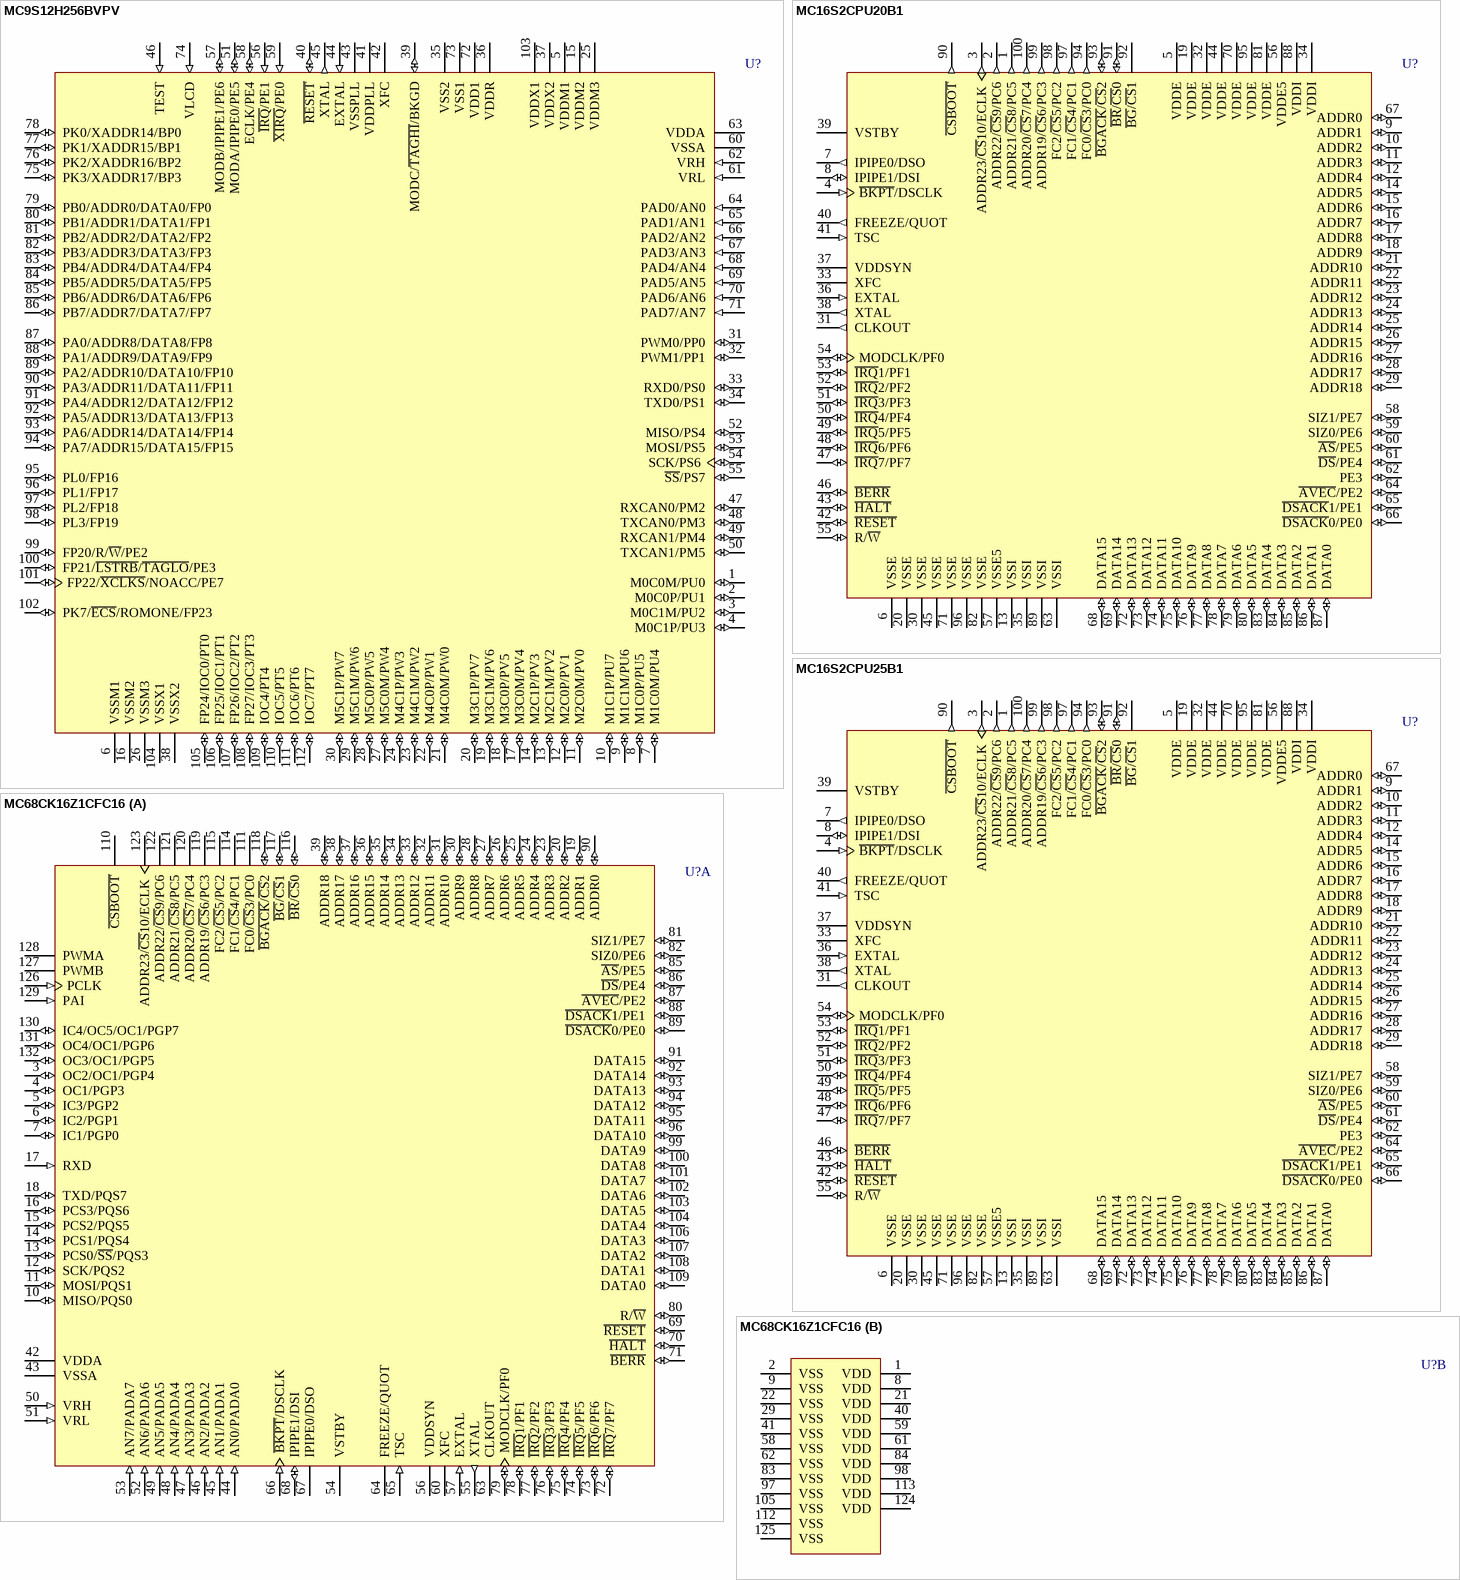
[diagram p23: symbols MC9S12H256BVPV to MC68CK16Z1CFC16]

## MC9S12H256BVPV
designator U?
16-Bit Microcontroller; PackageDocument: rev3.1, Nov-2000; Note: Tie Pin 46 (TEST) to VSS in all applications.; Published: 21-Mar-2003; LatestRevisionDate: 6-Jun-2005; LatestRevisionNote: Stylized 3D Model Added.; DatasheetDocument: 8-Mar-2002; PackageReference: 987-01; Publisher: Altium Limited; ComponentLink1Description: Manufacturer Link; ComponentLink1URL: http://www.freescale.com/
footprint 987-01 (QFP; 112 Leads; Body 20 x 20 mm; Pitch 0.65 mm)
3D model MC9S12-987-01 (QFP; 112 Leads; Body 20 x 20 mm; Pitch 0.65 mm)
pins: 1 M0C0M/PU0 (io), 2 M0C0P/PU1 (io), 3 M0C1M/PU2 (io), 4 M0C1P/PU3 (io), 5 VDDM1 (power), 6 VSSM1 (power), 7 M1C0M/PU4 (io), 8 M1C0P/PU5 (io), 9 M1C1M/PU6 (io), 10 M1C1P/PU7 (io), 11 M2C0M/PV0 (io), 12 M2C0P/PV1 (io), 13 M2C1M/PV2 (io), 14 M2C1P/PV3 (io), 15 VDDM2 (power), 16 VSSM2 (power), 17 M3C0M/PV4 (io), 18 M3C0P/PV5 (io), 19 M3C1M/PV6 (io), 20 M3C1P/PV7 (io), 21 M4C0M/PW0 (io), 22 M4C0P/PW1 (io), 23 M4C1M/PW2 (io), 24 M4C1P/PW3 (io), 25 VDDM3 (power), 26 VSSM3 (power), 27 M5C0M/PW4 (io), 28 M5C0P/PW5 (io), 29 M5C1M/PW6 (io), 30 M5C1P/PW7 (io), 31 PWM0/PP0 (io), 32 PWM1/PP1 (io), 33 RXD0/PS0 (io), 34 TXD0/PS1 (io), 35 VSS2 (power), 36 VDDR (power), 37 VDDX2 (power), 38 VSSX2 (power), 39 MODC/~{TAGHI}/BKGD (io), 40 ~{RESET} (io), 41 VDDPLL (power), 42 XFC, 43 VSSPLL (power), 44 EXTAL (in), 45 XTAL (out), 46 TEST (in), 47 RXCAN0/PM2 (io), 48 TXCAN0/PM3 (io), 49 RXCAN1/PM4 (io), 50 TXCAN1/PM5 (io), 51 MODA/IPIPE0/PE5 (io), 52 MISO/PS4 (io), 53 MOSI/PS5 (io), 54 SCK/PS6 (io), 55 ~{SS}/PS7 (io), 56 ~{IRQ}/PE1 (in), 57 MODB/IPIPE1/PE6 (io), 58 ECLK/PE4 (io), 59 ~{XIRQ}/PE0 (in), 60 VSSA (power), 61 VRL (in), 62 VRH (in), 63 VDDA (power), 64 PAD0/AN0 (in), 65 PAD1/AN1 (in), 66 PAD2/AN2 (in), 67 PAD3/AN3 (in), 68 PAD4/AN4 (in), 69 PAD5/AN5 (in), 70 PAD6/AN6 (in), 71 PAD7/AN7 (in), 72 VDD1 (power), 73 VSS1 (power), 74 VLCD (in), 75 PK3/XADDR17/BP3 (io), 76 PK2/XADDR16/BP2 (io), 77 PK1/XADDR15/BP1 (io), 78 PK0/XADDR14/BP0 (io), 79 PB0/ADDR0/DATA0/FP0 (io), 80 PB1/ADDR1/DATA1/FP1 (io), 81 PB2/ADDR2/DATA2/FP2 (io), 82 PB3/ADDR3/DATA3/FP3 (io), 83 PB4/ADDR4/DATA4/FP4 (io), 84 PB5/ADDR5/DATA5/FP5 (io), 85 PB6/ADDR6/DATA6/FP6 (io), 86 PB7/ADDR7/DATA7/FP7 (io), 87 PA0/ADDR8/DATA8/FP8 (io), 88 PA1/ADDR9/DATA9/FP9 (io), 89 PA2/ADDR10/DATA10/FP10 (io), 90 PA3/ADDR11/DATA11/FP11 (io), 91 PA4/ADDR12/DATA12/FP12 (io), 92 PA5/ADDR13/DATA13/FP13 (io), 93 PA6/ADDR14/DATA14/FP14 (io), 94 PA7/ADDR15/DATA15/FP15 (io), 95 PL0/FP16 (io), 96 PL1/FP17 (io), 97 PL2/FP18 (io), 98 PL3/FP19 (io), 99 FP20/R/~{W}/PE2 (io), 100 FP21/~{LSTRB}/~{TAGLO}/PE3 (io), 101 FP22/~{XCLKS}/NOACC/PE7 (io), 102 PK7/~{ECS}/ROMONE/FP23 (io), 103 VDDX1 (power), 104 VSSX1 (power), 105 FP24/IOC0/PT0 (io), 106 FP25/IOC1/PT1 (io), 107 FP26/IOC2/PT2 (io), 108 FP27/IOC3/PT3 (io), 109 IOC4/PT4 (io), 110 IOC5/PT5 (io), 111 IOC6/PT6 (io), 112 IOC7/PT7 (io)

## MC16S2CPU20B1
designator U?
16-Bit Modular Microcontroller; PackageDocument: rev3.1, Nov-2000; Published: 21-Mar-2003; LatestRevisionDate: 6-Jun-2005; LatestRevisionNote: Stylized 3D Model Added.; DatasheetDocument: 1996; PackageReference: 983-02; Publisher: Altium Limited; Code_IPC: SQFP14X14-100; ComponentLink1Description: Manufacturer Link; ComponentLink1URL: http://www.freescale.com/
footprint 983-02 (QFP; 100 Leads; Body 14 x 14 mm; Pitch 0.5 mm)
3D model MC16-983-02 (QFP; 100 Leads; Body 14 x 14 mm; Pitch 0.5 mm)
pins: 1 ADDR21/~{CS}8/PC5 (out), 2 ADDR22/~{CS}9/PC6 (out), 3 ADDR23/~{CS}10/ECLK (out), 4 ~{BKPT}/DSCLK (in), 5 VDDE (power), 6 VSSE (power), 7 IPIPE0/DSO (out), 8 IPIPE1/DSI (io), 9 ADDR1 (io), 10 ADDR2 (io), 11 ADDR3 (io), 12 ADDR4 (io), 13 VSSI (power), 14 ADDR5 (io), 15 ADDR6 (io), 16 ADDR7 (io), 17 ADDR8 (io), 18 ADDR9 (io), 19 VDDE (power), 20 VSSE (power), 21 ADDR10 (io), 22 ADDR11 (io), 23 ADDR12 (io), 24 ADDR13 (io), 25 ADDR14 (io), 26 ADDR15 (io), 27 ADDR16 (io), 28 ADDR17 (io), 29 ADDR18 (io), 30 VSSE (power), 31 CLKOUT (out), 32 VDDE (power), 33 XFC, 34 VDDI (power), 35 VSSI (power), 36 EXTAL (in), 37 VDDSYN (power), 38 XTAL (out), 39 VSTBY (power), 40 FREEZE/QUOT (out), 41 TSC (in), 42 ~{RESET} (io), 43 ~{HALT} (io), 44 VDDE (power), 45 VSSE (power), 46 ~{BERR} (io), 47 ~{IRQ}7/PF7 (io), 48 ~{IRQ}6/PF6 (io), 49 ~{IRQ}5/PF5 (io), 50 ~{IRQ}4/PF4 (io), 51 ~{IRQ}3/PF3 (io), 52 ~{IRQ}2/PF2 (io), 53 ~{IRQ}1/PF1 (io), 54 MODCLK/PF0 (io), 55 R/~{W} (io), 56 VDDE5 (power), 57 VSSE5 (power), 58 SIZ1/PE7 (io), 59 SIZ0/PE6 (io), 60 ~{AS}/PE5 (io), 61 ~{DS}/PE4 (io), 62 PE3 (io), 63 VSSI (power), 64 ~{AVEC}/PE2 (io), 65 ~{DSACK}1/PE1 (io), 66 ~{DSACK}0/PE0 (io), 67 ADDR0 (io), 68 DATA15 (io), 69 DATA14 (io), 70 VDDE (power), 71 VSSE (power), 72 DATA13 (io), 73 DATA12 (io), 74 DATA11 (io), 75 DATA10 (io), 76 DATA9 (io), 77 DATA8 (io), 78 DATA7 (io), 79 DATA6 (io), 80 DATA5 (io), 81 VDDE (power), 82 VSSE (power), 83 DATA4 (io), 84 DATA3 (io), 85 DATA2 (io), 86 DATA1 (io), 87 DATA0 (io), 88 VDDI (power), 89 VSSI (power), 90 ~{CSBOOT} (out), 91 ~{BR}/~{CS}0 (io), 92 ~{BG}/~{CS}1 (hiz), 93 ~{BGACK}/~{CS}2 (io), 94 FC0/~{CS}3/PC0 (out), 95 VDDE (power), 96 VSSE (power), 97 FC1/~{CS}4/PC1 (out), 98 FC2/~{CS}5/PC2 (out), 99 ADDR19/~{CS}6/PC3 (out), 100 ADDR20/~{CS}7/PC4 (out)

## MC16S2CPU25B1
designator U?
16-Bit Modular Microcontroller; PackageDocument: rev3.1, Nov-2000; Published: 21-Mar-2003; LatestRevisionDate: 6-Jun-2005; LatestRevisionNote: Stylized 3D Model Added.; DatasheetDocument: 1996; PackageReference: 983-02; Publisher: Altium Limited; Code_IPC: SQFP14X14-100; ComponentLink1Description: Manufacturer Link; ComponentLink1URL: http://www.freescale.com/
footprint 983-02 (QFP; 100 Leads; Body 14 x 14 mm; Pitch 0.5 mm)
3D model MC16-983-02 (QFP; 100 Leads; Body 14 x 14 mm; Pitch 0.5 mm)
pins: 1 ADDR21/~{CS}8/PC5 (out), 2 ADDR22/~{CS}9/PC6 (out), 3 ADDR23/~{CS}10/ECLK (out), 4 ~{BKPT}/DSCLK (in), 5 VDDE (power), 6 VSSE (power), 7 IPIPE0/DSO (out), 8 IPIPE1/DSI (io), 9 ADDR1 (io), 10 ADDR2 (io), 11 ADDR3 (io), 12 ADDR4 (io), 13 VSSI (power), 14 ADDR5 (io), 15 ADDR6 (io), 16 ADDR7 (io), 17 ADDR8 (io), 18 ADDR9 (io), 19 VDDE (power), 20 VSSE (power), 21 ADDR10 (io), 22 ADDR11 (io), 23 ADDR12 (io), 24 ADDR13 (io), 25 ADDR14 (io), 26 ADDR15 (io), 27 ADDR16 (io), 28 ADDR17 (io), 29 ADDR18 (io), 30 VSSE (power), 31 CLKOUT (out), 32 VDDE (power), 33 XFC, 34 VDDI (power), 35 VSSI (power), 36 EXTAL (in), 37 VDDSYN (power), 38 XTAL (out), 39 VSTBY (power), 40 FREEZE/QUOT (out), 41 TSC (in), 42 ~{RESET} (io), 43 ~{HALT} (io), 44 VDDE (power), 45 VSSE (power), 46 ~{BERR} (io), 47 ~{IRQ}7/PF7 (io), 48 ~{IRQ}6/PF6 (io), 49 ~{IRQ}5/PF5 (io), 50 ~{IRQ}4/PF4 (io), 51 ~{IRQ}3/PF3 (io), 52 ~{IRQ}2/PF2 (io), 53 ~{IRQ}1/PF1 (io), 54 MODCLK/PF0 (io), 55 R/~{W} (io), 56 VDDE5 (power), 57 VSSE5 (power), 58 SIZ1/PE7 (io), 59 SIZ0/PE6 (io), 60 ~{AS}/PE5 (io), 61 ~{DS}/PE4 (io), 62 PE3 (io), 63 VSSI (power), 64 ~{AVEC}/PE2 (io), 65 ~{DSACK}1/PE1 (io), 66 ~{DSACK}0/PE0 (io), 67 ADDR0 (io), 68 DATA15 (io), 69 DATA14 (io), 70 VDDE (power), 71 VSSE (power), 72 DATA13 (io), 73 DATA12 (io), 74 DATA11 (io), 75 DATA10 (io), 76 DATA9 (io), 77 DATA8 (io), 78 DATA7 (io), 79 DATA6 (io), 80 DATA5 (io), 81 VDDE (power), 82 VSSE (power), 83 DATA4 (io), 84 DATA3 (io), 85 DATA2 (io), 86 DATA1 (io), 87 DATA0 (io), 88 VDDI (power), 89 VSSI (power), 90 ~{CSBOOT} (out), 91 ~{BR}/~{CS}0 (io), 92 ~{BG}/~{CS}1 (hiz), 93 ~{BGACK}/~{CS}2 (io), 94 FC0/~{CS}3/PC0 (out), 95 VDDE (power), 96 VSSE (power), 97 FC1/~{CS}4/PC1 (out), 98 FC2/~{CS}5/PC2 (out), 99 ADDR19/~{CS}6/PC3 (out), 100 ADDR20/~{CS}7/PC4 (out)

## MC68CK16Z1CFC16
designator U?
M68HC16 Z-Series MCU; PackageDocument: 1997; Published: 21-Mar-2003; DatasheetDocument: Oct-1997; PackageReference: 831A-01; Publisher: Altium Limited; ComponentLink1Description: Manufacturer Link; ComponentLink1URL: http://www.freescale.com/; ComponentLink2Description: Datasheet; ComponentLink2URL: http://www.freescale.com/files/microcontrollers/doc/user_guide/MC68HC16ZUM.pdf; ComponentLink3Description: Instruction Set; ComponentLink3URL: http://www.freescale.com/files/microcontrollers/doc/ref_manual/CPU16RM.pdf
footprint 831A-01 (PQFP; 132 Leads; Body 24.2 x 24.2 mm; Pitch 0.635 mm)
part A pins: 3 OC2/OC1/PGP4 (io), 4 OC1/PGP3 (io), 5 IC3/PGP2 (io), 6 IC2/PGP1 (io), 7 IC1/PGP0 (io), 10 MISO/PQS0 (io), 11 MOSI/PQS1 (io), 12 SCK/PQS2 (io), 13 PCS0/~{SS}/PQS3 (io), 14 PCS1/PQS4 (io), 15 PCS2/PQS5 (io), 16 PCS3/PQS6 (io), 17 RXD (in), 18 TXD/PQS7 (io), 19 ADDR1 (io), 20 ADDR2 (io), 23 ADDR3 (io), 24 ADDR4 (io), 25 ADDR5 (io), 26 ADDR6 (io), 27 ADDR7 (io), 28 ADDR8 (io), 30 ADDR9 (io), 31 ADDR10 (io), 32 ADDR11 (io), 33 ADDR12 (io), 34 ADDR13 (io), 35 ADDR14 (io), 36 ADDR15 (io), 37 ADDR16 (io), 38 ADDR17 (io), 39 ADDR18 (io), 42 VDDA (power), 43 VSSA (power), 44 AN0/PADA0 (in), 45 AN1/PADA1 (in), 46 AN2/PADA2 (in), 47 AN3/PADA3 (in), 48 AN4/PADA4 (in), 49 AN5/PADA5 (in), 50 VRH (in), 51 VRL (in), 52 AN6/PADA6 (in), 53 AN7/PADA7 (in), 54 VSTBY (power), 55 XTAL (out), 56 VDDSYN (power), 57 EXTAL (in), 60 XFC, 63 CLKOUT (hiz), 64 FREEZE/QUOT (hiz), 65 TSC (in), 66 ~{BKPT}/DSCLK (in), 67 IPIPE0/DSO (hiz), 68 IPIPE1/DSI (io), 69 ~{RESET} (io), 70 ~{HALT} (io), 71 ~{BERR} (io), 72 ~{IRQ}7/PF7 (io), 73 ~{IRQ}6/PF6 (io), 74 ~{IRQ}5/PF5 (io), 75 ~{IRQ}4/PF4 (io), 76 ~{IRQ}3/PF3 (io), 77 ~{IRQ}2/PF2 (io), 78 ~{IRQ}1/PF1 (io), 79 MODCLK/PF0 (io), 80 R/~{W} (io), 81 SIZ1/PE7 (io), 82 SIZ0/PE6 (io), 85 ~{AS}/PE5 (io), 86 ~{DS}/PE4 (io), 87 ~{AVEC}/PE2 (io), 88 ~{DSACK}1/PE1 (io), 89 ~{DSACK}0/PE0 (io), 90 ADDR0 (io), 91 DATA15 (io), 92 DATA14 (io), 93 DATA13 (io), 94 DATA12 (io), 95 DATA11 (io), 96 DATA10 (io), 99 DATA9 (io), 100 DATA8 (io), 101 DATA7 (io), 102 DATA6 (io), 103 DATA5 (io), 104 DATA4 (io), 106 DATA3 (io), 107 DATA2 (io), 108 DATA1 (io), 109 DATA0 (io), 110 ~{CSBOOT} (hiz), 111 FC0/~{CS}3/PC0 (hiz), 114 FC1/~{CS}4/PC1 (hiz), 115 FC2/~{CS}5/PC2 (hiz), 116 ~{BR}/~{CS}0 (io), 117 ~{BG}/~{CS}1 (io), 118 ~{BGACK}/~{CS}2 (io), 119 ADDR19/~{CS}6/PC3 (hiz), 120 ADDR20/~{CS}7/PC4 (hiz), 121 ADDR21/~{CS}8/PC5 (hiz), 122 ADDR22/~{CS}9/PC6 (hiz), 123 ADDR23/~{CS}10/ECLK (hiz), 126 PCLK (in), 127 PWMB (hiz), 128 PWMA (hiz), 129 PAI (in), 130 IC4/OC5/OC1/PGP7 (io), 131 OC4/OC1/PGP6 (io), 132 OC3/OC1/PGP5 (io)
part B pins: 1 VDD (power), 2 VSS (power), 8 VDD (power), 9 VSS (power), 21 VDD (power), 22 VSS (power), 29 VSS (power), 40 VDD (power), 41 VSS (power), 58 VSS (power), 59 VDD (power), 61 VDD (power), 62 VSS (power), 83 VSS (power), 84 VDD (power), 97 VSS (power), 98 VDD (power), 105 VSS (power), 112 VSS (power), 113 VDD (power), 124 VDD (power), 125 VSS (power)

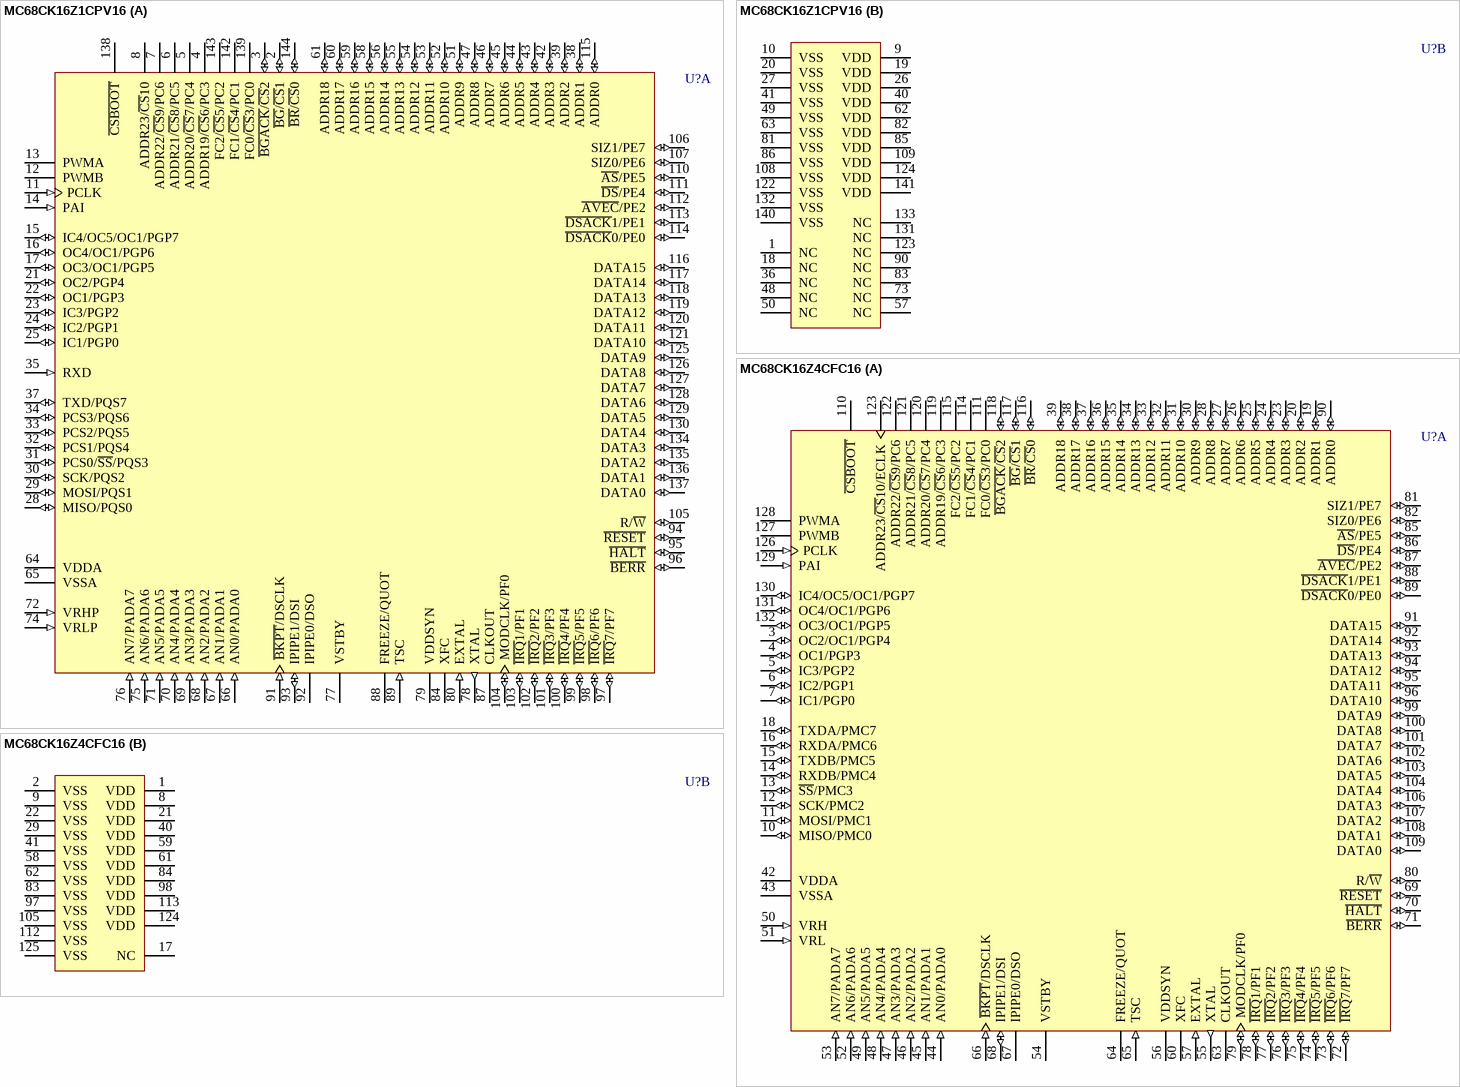
[diagram p24: symbols MC68CK16Z1CPV16 to MC68CK16Z4CFC16]

## MC68CK16Z1CPV16
designator U?
M68HC16 Z-Series MCU; PackageDocument: 1997; Published: 21-Mar-2003; LatestRevisionDate: 6-Jun-2005; LatestRevisionNote: Stylized 3D Model Added.; DatasheetDocument: Oct-1997; PackageReference: 918; Publisher: Altium Limited; Code_IPC: SQFP20X20-144; ComponentLink1Description: Manufacturer Link; ComponentLink1URL: http://www.freescale.com/; ComponentLink2Description: Datasheet; ComponentLink2URL: http://www.freescale.com/files/microcontrollers/doc/user_guide/MC68HC16ZUM.pdf; ComponentLink3Description: Instruction Set; ComponentLink3URL: http://www.freescale.com/files/microcontrollers/doc/ref_manual/CPU16RM.pdf
footprint 918 (QFP; 144 Leads; Body 20 x 20 mm; Pitch 0.5 mm)
3D model MC68CK16-918 (QFP; 144 Leads; Body 20 x 20 mm; Pitch 0.5 mm)
part A pins: 2 ~{BG}/~{CS}1 (io), 3 ~{BGACK}/~{CS}2 (io), 4 ADDR19/~{CS}6/PC3 (hiz), 5 ADDR20/~{CS}7/PC4 (hiz), 6 ADDR21/~{CS}8/PC5 (hiz), 7 ADDR22/~{CS}9/PC6 (hiz), 8 ADDR23/~{CS}10 (hiz), 11 PCLK (in), 12 PWMB (hiz), 13 PWMA (hiz), 14 PAI (in), 15 IC4/OC5/OC1/PGP7 (io), 16 OC4/OC1/PGP6 (io), 17 OC3/OC1/PGP5 (io), 21 OC2/PGP4 (io), 22 OC1/PGP3 (io), 23 IC3/PGP2 (io), 24 IC2/PGP1 (io), 25 IC1/PGP0 (io), 28 MISO/PQS0 (io), 29 MOSI/PQS1 (io), 30 SCK/PQS2 (io), 31 PCS0/~{SS}/PQS3 (io), 32 PCS1/PQS4 (io), 33 PCS2/PQS5 (io), 34 PCS3/PQS6 (io), 35 RXD (in), 37 TXD/PQS7 (io), 38 ADDR1 (io), 39 ADDR2 (io), 42 ADDR3 (io), 43 ADDR4 (io), 44 ADDR5 (io), 45 ADDR6 (io), 46 ADDR7 (io), 47 ADDR8 (io), 51 ADDR9 (io), 52 ADDR10 (io), 53 ADDR11 (io), 54 ADDR12 (io), 55 ADDR13 (io), 56 ADDR14 (io), 58 ADDR15 (io), 59 ADDR16 (io), 60 ADDR17 (io), 61 ADDR18 (io), 64 VDDA (power), 65 VSSA (power), 66 AN0/PADA0 (in), 67 AN1/PADA1 (in), 68 AN2/PADA2 (in), 69 AN3/PADA3 (in), 70 AN4/PADA4 (in), 71 AN5/PADA5 (in), 72 VRHP (in), 74 VRLP (in), 75 AN6/PADA6 (in), 76 AN7/PADA7 (in), 77 VSTBY (power), 78 XTAL (out), 79 VDDSYN (power), 80 EXTAL (in), 84 XFC, 87 CLKOUT (hiz), 88 FREEZE/QUOT (hiz), 89 TSC (in), 91 ~{BKPT}/DSCLK (in), 92 IPIPE0/DSO (hiz), 93 IPIPE1/DSI (io), 94 ~{RESET} (io), 95 ~{HALT} (io), 96 ~{BERR} (io), 97 ~{IRQ}7/PF7 (io), 98 ~{IRQ}6/PF6 (io), 99 ~{IRQ}5/PF5 (io), 100 ~{IRQ}4/PF4 (io), 101 ~{IRQ}3/PF3 (io), 102 ~{IRQ}2/PF2 (io), 103 ~{IRQ}1/PF1 (io), 104 MODCLK/PF0 (io), 105 R/~{W} (io), 106 SIZ1/PE7 (io), 107 SIZ0/PE6 (io), 110 ~{AS}/PE5 (io), 111 ~{DS}/PE4 (io), 112 ~{AVEC}/PE2 (io), 113 ~{DSACK}1/PE1 (io), 114 ~{DSACK}0/PE0 (io), 115 ADDR0 (io), 116 DATA15 (io), 117 DATA14 (io), 118 DATA13 (io), 119 DATA12 (io), 120 DATA11 (io), 121 DATA10 (io), 125 DATA9 (io), 126 DATA8 (io), 127 DATA7 (io), 128 DATA6 (io), 129 DATA5 (io), 130 DATA4 (io), 134 DATA3 (io), 135 DATA2 (io), 136 DATA1 (io), 137 DATA0 (io), 138 ~{CSBOOT} (hiz), 139 FC0/~{CS}3/PC0 (hiz), 142 FC1/~{CS}4/PC1 (hiz), 143 FC2/~{CS}5/PC2 (hiz), 144 ~{BR}/~{CS}0 (io)
part B pins: 1 NC, 9 VDD (power), 10 VSS (power), 18 NC, 19 VDD (power), 20 VSS (power), 26 VDD (power), 27 VSS (power), 36 NC, 40 VDD (power), 41 VSS (power), 48 NC, 49 VSS (power), 50 NC, 57 NC, 62 VDD (power), 63 VSS (power), 73 NC, 81 VSS (power), 82 VDD (power), 83 NC, 85 VDD (power), 86 VSS (power), 90 NC, 108 VSS (power), 109 VDD (power), 122 VSS (power), 123 NC, 124 VDD (power), 131 NC, 132 VSS (power), 133 NC, 140 VSS (power), 141 VDD (power)

## MC68CK16Z4CFC16
designator U?
M68HC16 Z-Series MCU; PackageDocument: 1997; Published: 21-Mar-2003; DatasheetDocument: Oct-1997; PackageReference: 831A-01; Publisher: Altium Limited; ComponentLink1Description: Manufacturer Link; ComponentLink1URL: http://www.freescale.com/; ComponentLink2Description: Datasheet; ComponentLink2URL: http://www.freescale.com/files/microcontrollers/doc/user_guide/MC68HC16ZUM.pdf; ComponentLink3Description: Instruction Set; ComponentLink3URL: http://www.freescale.com/files/microcontrollers/doc/ref_manual/CPU16RM.pdf
footprint 831A-01 (PQFP; 132 Leads; Body 24.2 x 24.2 mm; Pitch 0.635 mm)
part A pins: 3 OC2/OC1/PGP4 (io), 4 OC1/PGP3 (io), 5 IC3/PGP2 (io), 6 IC2/PGP1 (io), 7 IC1/PGP0 (io), 10 MISO/PMC0 (io), 11 MOSI/PMC1 (io), 12 SCK/PMC2 (io), 13 ~{SS}/PMC3 (io), 14 RXDB/PMC4 (io), 15 TXDB/PMC5 (io), 16 RXDA/PMC6 (io), 18 TXDA/PMC7 (io), 19 ADDR1 (io), 20 ADDR2 (io), 23 ADDR3 (io), 24 ADDR4 (io), 25 ADDR5 (io), 26 ADDR6 (io), 27 ADDR7 (io), 28 ADDR8 (io), 30 ADDR9 (io), 31 ADDR10 (io), 32 ADDR11 (io), 33 ADDR12 (io), 34 ADDR13 (io), 35 ADDR14 (io), 36 ADDR15 (io), 37 ADDR16 (io), 38 ADDR17 (io), 39 ADDR18 (io), 42 VDDA (power), 43 VSSA (power), 44 AN0/PADA0 (in), 45 AN1/PADA1 (in), 46 AN2/PADA2 (in), 47 AN3/PADA3 (in), 48 AN4/PADA4 (in), 49 AN5/PADA5 (in), 50 VRH (in), 51 VRL (in), 52 AN6/PADA6 (in), 53 AN7/PADA7 (in), 54 VSTBY (power), 55 XTAL (out), 56 VDDSYN (power), 57 EXTAL (in), 60 XFC, 63 CLKOUT (hiz), 64 FREEZE/QUOT (hiz), 65 TSC (in), 66 ~{BKPT}/DSCLK (in), 67 IPIPE0/DSO (hiz), 68 IPIPE1/DSI (io), 69 ~{RESET} (io), 70 ~{HALT} (io), 71 ~{BERR} (io), 72 ~{IRQ}7/PF7 (io), 73 ~{IRQ}6/PF6 (io), 74 ~{IRQ}5/PF5 (io), 75 ~{IRQ}4/PF4 (io), 76 ~{IRQ}3/PF3 (io), 77 ~{IRQ}2/PF2 (io), 78 ~{IRQ}1/PF1 (io), 79 MODCLK/PF0 (io), 80 R/~{W} (io), 81 SIZ1/PE7 (io), 82 SIZ0/PE6 (io), 85 ~{AS}/PE5 (io), 86 ~{DS}/PE4 (io), 87 ~{AVEC}/PE2 (io), 88 ~{DSACK}1/PE1 (io), 89 ~{DSACK}0/PE0 (io), 90 ADDR0 (io), 91 DATA15 (io), 92 DATA14 (io), 93 DATA13 (io), 94 DATA12 (io), 95 DATA11 (io), 96 DATA10 (io), 99 DATA9 (io), 100 DATA8 (io), 101 DATA7 (io), 102 DATA6 (io), 103 DATA5 (io), 104 DATA4 (io), 106 DATA3 (io), 107 DATA2 (io), 108 DATA1 (io), 109 DATA0 (io), 110 ~{CSBOOT} (hiz), 111 FC0/~{CS}3/PC0 (hiz), 114 FC1/~{CS}4/PC1 (hiz), 115 FC2/~{CS}5/PC2 (hiz), 116 ~{BR}/~{CS}0 (io), 117 ~{BG}/~{CS}1 (io), 118 ~{BGACK}/~{CS}2 (io), 119 ADDR19/~{CS}6/PC3 (hiz), 120 ADDR20/~{CS}7/PC4 (hiz), 121 ADDR21/~{CS}8/PC5 (hiz), 122 ADDR22/~{CS}9/PC6 (hiz), 123 ADDR23/~{CS}10/ECLK (hiz), 126 PCLK (in), 127 PWMB (hiz), 128 PWMA (hiz), 129 PAI (in), 130 IC4/OC5/OC1/PGP7 (io), 131 OC4/OC1/PGP6 (io), 132 OC3/OC1/PGP5 (io)
part B pins: 1 VDD (power), 2 VSS (power), 8 VDD (power), 9 VSS (power), 17 NC, 21 VDD (power), 22 VSS (power), 29 VSS (power), 40 VDD (power), 41 VSS (power), 58 VSS (power), 59 VDD (power), 61 VDD (power), 62 VSS (power), 83 VSS (power), 84 VDD (power), 97 VSS (power), 98 VDD (power), 105 VSS (power), 112 VSS (power), 113 VDD (power), 124 VDD (power), 125 VSS (power)

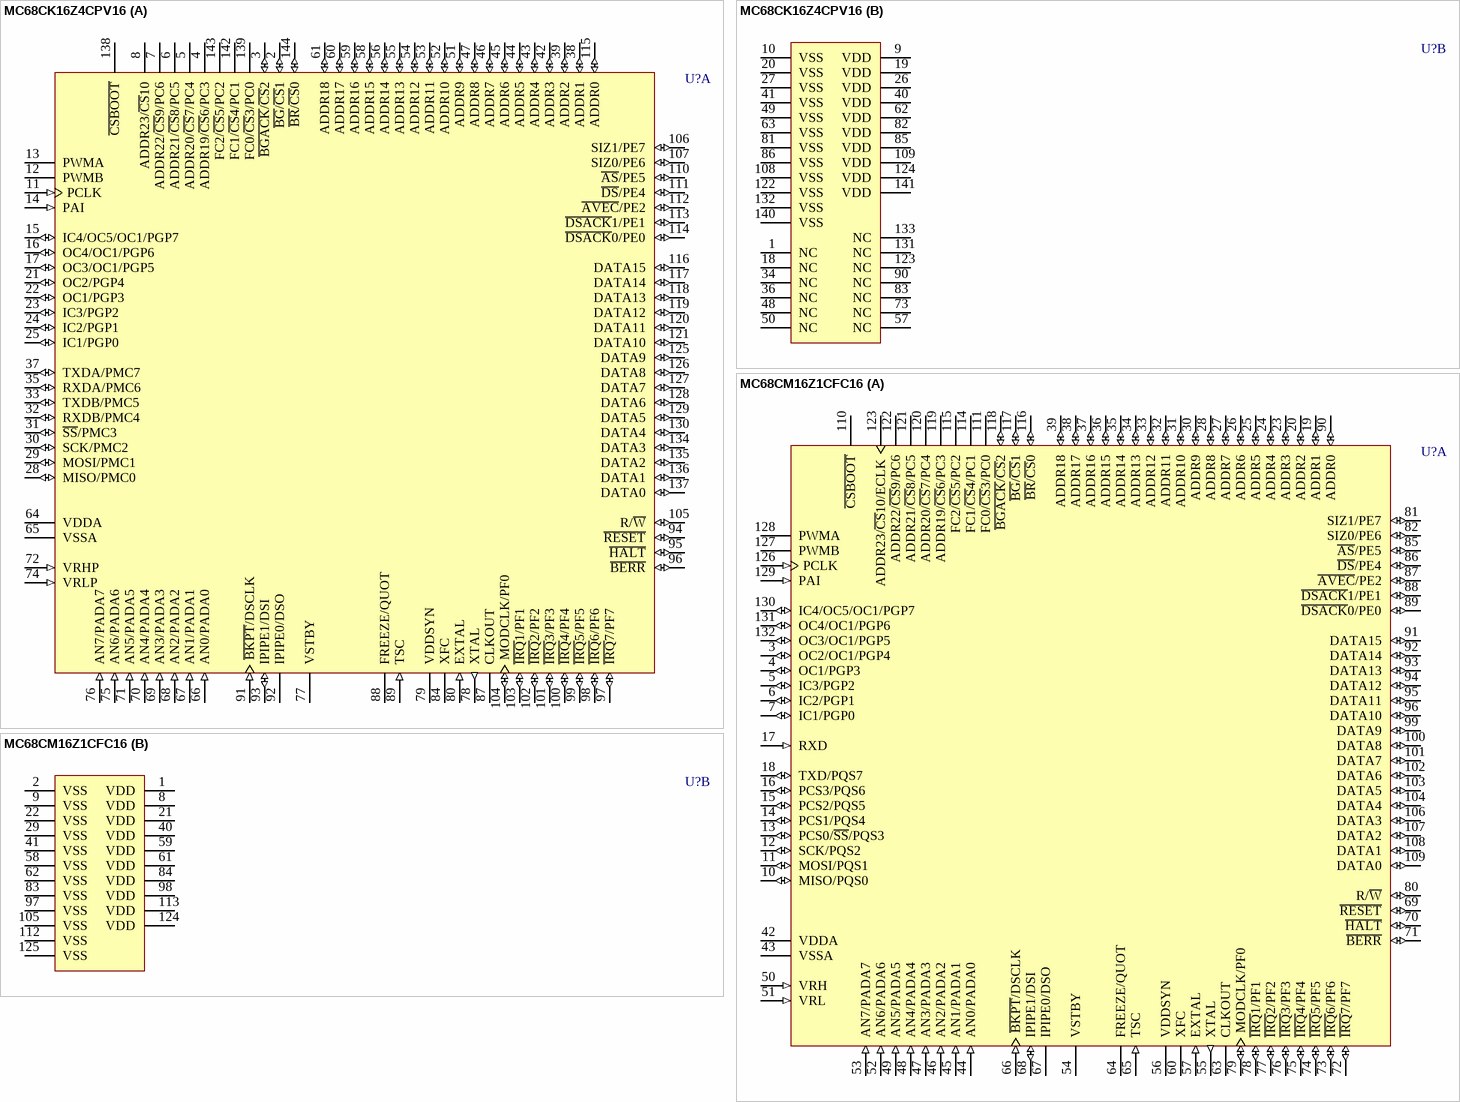
[diagram p25: symbols MC68CK16Z4CPV16 to MC68CM16Z1CFC16]

## MC68CK16Z4CPV16
designator U?
M68HC16 Z-Series MCU; PackageDocument: 1997; Published: 21-Mar-2003; LatestRevisionDate: 6-Jun-2005; LatestRevisionNote: Stylized 3D Model Added.; DatasheetDocument: Oct-1997; PackageReference: 918; Publisher: Altium Limited; Code_IPC: SQFP20X20-144; ComponentLink1Description: Manufacturer Link; ComponentLink1URL: http://www.freescale.com/; ComponentLink2Description: Datasheet; ComponentLink2URL: http://www.freescale.com/files/microcontrollers/doc/user_guide/MC68HC16ZUM.pdf; ComponentLink3Description: Instruction Set; ComponentLink3URL: http://www.freescale.com/files/microcontrollers/doc/ref_manual/CPU16RM.pdf
footprint 918 (QFP; 144 Leads; Body 20 x 20 mm; Pitch 0.5 mm)
3D model MC68CK16-918 (QFP; 144 Leads; Body 20 x 20 mm; Pitch 0.5 mm)
part A pins: 2 ~{BG}/~{CS}1 (io), 3 ~{BGACK}/~{CS}2 (io), 4 ADDR19/~{CS}6/PC3 (hiz), 5 ADDR20/~{CS}7/PC4 (hiz), 6 ADDR21/~{CS}8/PC5 (hiz), 7 ADDR22/~{CS}9/PC6 (hiz), 8 ADDR23/~{CS}10 (hiz), 11 PCLK (in), 12 PWMB (hiz), 13 PWMA (hiz), 14 PAI (in), 15 IC4/OC5/OC1/PGP7 (io), 16 OC4/OC1/PGP6 (io), 17 OC3/OC1/PGP5 (io), 21 OC2/PGP4 (io), 22 OC1/PGP3 (io), 23 IC3/PGP2 (io), 24 IC2/PGP1 (io), 25 IC1/PGP0 (io), 28 MISO/PMC0 (io), 29 MOSI/PMC1 (io), 30 SCK/PMC2 (io), 31 ~{SS}/PMC3 (io), 32 RXDB/PMC4 (io), 33 TXDB/PMC5 (io), 35 RXDA/PMC6 (io), 37 TXDA/PMC7 (io), 38 ADDR1 (io), 39 ADDR2 (io), 42 ADDR3 (io), 43 ADDR4 (io), 44 ADDR5 (io), 45 ADDR6 (io), 46 ADDR7 (io), 47 ADDR8 (io), 51 ADDR9 (io), 52 ADDR10 (io), 53 ADDR11 (io), 54 ADDR12 (io), 55 ADDR13 (io), 56 ADDR14 (io), 58 ADDR15 (io), 59 ADDR16 (io), 60 ADDR17 (io), 61 ADDR18 (io), 64 VDDA (power), 65 VSSA (power), 66 AN0/PADA0 (in), 67 AN1/PADA1 (in), 68 AN2/PADA2 (in), 69 AN3/PADA3 (in), 70 AN4/PADA4 (in), 71 AN5/PADA5 (in), 72 VRHP (in), 74 VRLP (in), 75 AN6/PADA6 (in), 76 AN7/PADA7 (in), 77 VSTBY (power), 78 XTAL (out), 79 VDDSYN (power), 80 EXTAL (in), 84 XFC, 87 CLKOUT (hiz), 88 FREEZE/QUOT (hiz), 89 TSC (in), 91 ~{BKPT}/DSCLK (in), 92 IPIPE0/DSO (hiz), 93 IPIPE1/DSI (io), 94 ~{RESET} (io), 95 ~{HALT} (io), 96 ~{BERR} (io), 97 ~{IRQ}7/PF7 (io), 98 ~{IRQ}6/PF6 (io), 99 ~{IRQ}5/PF5 (io), 100 ~{IRQ}4/PF4 (io), 101 ~{IRQ}3/PF3 (io), 102 ~{IRQ}2/PF2 (io), 103 ~{IRQ}1/PF1 (io), 104 MODCLK/PF0 (io), 105 R/~{W} (io), 106 SIZ1/PE7 (io), 107 SIZ0/PE6 (io), 110 ~{AS}/PE5 (io), 111 ~{DS}/PE4 (io), 112 ~{AVEC}/PE2 (io), 113 ~{DSACK}1/PE1 (io), 114 ~{DSACK}0/PE0 (io), 115 ADDR0 (io), 116 DATA15 (io), 117 DATA14 (io), 118 DATA13 (io), 119 DATA12 (io), 120 DATA11 (io), 121 DATA10 (io), 125 DATA9 (io), 126 DATA8 (io), 127 DATA7 (io), 128 DATA6 (io), 129 DATA5 (io), 130 DATA4 (io), 134 DATA3 (io), 135 DATA2 (io), 136 DATA1 (io), 137 DATA0 (io), 138 ~{CSBOOT} (hiz), 139 FC0/~{CS}3/PC0 (hiz), 142 FC1/~{CS}4/PC1 (hiz), 143 FC2/~{CS}5/PC2 (hiz), 144 ~{BR}/~{CS}0 (io)
part B pins: 1 NC, 9 VDD (power), 10 VSS (power), 18 NC, 19 VDD (power), 20 VSS (power), 26 VDD (power), 27 VSS (power), 34 NC, 36 NC, 40 VDD (power), 41 VSS (power), 48 NC, 49 VSS (power), 50 NC, 57 NC, 62 VDD (power), 63 VSS (power), 73 NC, 81 VSS (power), 82 VDD (power), 83 NC, 85 VDD (power), 86 VSS (power), 90 NC, 108 VSS (power), 109 VDD (power), 122 VSS (power), 123 NC, 124 VDD (power), 131 NC, 132 VSS (power), 133 NC, 140 VSS (power), 141 VDD (power)

## MC68CM16Z1CFC16
designator U?
M68HC16 Z-Series MCU; PackageDocument: 1997; Published: 21-Mar-2003; DatasheetDocument: Oct-1997; PackageReference: 831A-01; Publisher: Altium Limited; ComponentLink1Description: Manufacturer Link; ComponentLink1URL: http://www.freescale.com/; ComponentLink2Description: Datasheet; ComponentLink2URL: http://www.freescale.com/files/microcontrollers/doc/user_guide/MC68HC16ZUM.pdf; ComponentLink3Description: Instruction Set; ComponentLink3URL: http://www.freescale.com/files/microcontrollers/doc/ref_manual/CPU16RM.pdf
footprint 831A-01 (PQFP; 132 Leads; Body 24.2 x 24.2 mm; Pitch 0.635 mm)
part A pins: 3 OC2/OC1/PGP4 (io), 4 OC1/PGP3 (io), 5 IC3/PGP2 (io), 6 IC2/PGP1 (io), 7 IC1/PGP0 (io), 10 MISO/PQS0 (io), 11 MOSI/PQS1 (io), 12 SCK/PQS2 (io), 13 PCS0/~{SS}/PQS3 (io), 14 PCS1/PQS4 (io), 15 PCS2/PQS5 (io), 16 PCS3/PQS6 (io), 17 RXD (in), 18 TXD/PQS7 (io), 19 ADDR1 (io), 20 ADDR2 (io), 23 ADDR3 (io), 24 ADDR4 (io), 25 ADDR5 (io), 26 ADDR6 (io), 27 ADDR7 (io), 28 ADDR8 (io), 30 ADDR9 (io), 31 ADDR10 (io), 32 ADDR11 (io), 33 ADDR12 (io), 34 ADDR13 (io), 35 ADDR14 (io), 36 ADDR15 (io), 37 ADDR16 (io), 38 ADDR17 (io), 39 ADDR18 (io), 42 VDDA (power), 43 VSSA (power), 44 AN0/PADA0 (in), 45 AN1/PADA1 (in), 46 AN2/PADA2 (in), 47 AN3/PADA3 (in), 48 AN4/PADA4 (in), 49 AN5/PADA5 (in), 50 VRH (in), 51 VRL (in), 52 AN6/PADA6 (in), 53 AN7/PADA7 (in), 54 VSTBY (power), 55 XTAL (out), 56 VDDSYN (power), 57 EXTAL (in), 60 XFC, 63 CLKOUT (hiz), 64 FREEZE/QUOT (hiz), 65 TSC (in), 66 ~{BKPT}/DSCLK (in), 67 IPIPE0/DSO (hiz), 68 IPIPE1/DSI (io), 69 ~{RESET} (io), 70 ~{HALT} (io), 71 ~{BERR} (io), 72 ~{IRQ}7/PF7 (io), 73 ~{IRQ}6/PF6 (io), 74 ~{IRQ}5/PF5 (io), 75 ~{IRQ}4/PF4 (io), 76 ~{IRQ}3/PF3 (io), 77 ~{IRQ}2/PF2 (io), 78 ~{IRQ}1/PF1 (io), 79 MODCLK/PF0 (io), 80 R/~{W} (io), 81 SIZ1/PE7 (io), 82 SIZ0/PE6 (io), 85 ~{AS}/PE5 (io), 86 ~{DS}/PE4 (io), 87 ~{AVEC}/PE2 (io), 88 ~{DSACK}1/PE1 (io), 89 ~{DSACK}0/PE0 (io), 90 ADDR0 (io), 91 DATA15 (io), 92 DATA14 (io), 93 DATA13 (io), 94 DATA12 (io), 95 DATA11 (io), 96 DATA10 (io), 99 DATA9 (io), 100 DATA8 (io), 101 DATA7 (io), 102 DATA6 (io), 103 DATA5 (io), 104 DATA4 (io), 106 DATA3 (io), 107 DATA2 (io), 108 DATA1 (io), 109 DATA0 (io), 110 ~{CSBOOT} (hiz), 111 FC0/~{CS}3/PC0 (hiz), 114 FC1/~{CS}4/PC1 (hiz), 115 FC2/~{CS}5/PC2 (hiz), 116 ~{BR}/~{CS}0 (io), 117 ~{BG}/~{CS}1 (io), 118 ~{BGACK}/~{CS}2 (io), 119 ADDR19/~{CS}6/PC3 (hiz), 120 ADDR20/~{CS}7/PC4 (hiz), 121 ADDR21/~{CS}8/PC5 (hiz), 122 ADDR22/~{CS}9/PC6 (hiz), 123 ADDR23/~{CS}10/ECLK (hiz), 126 PCLK (in), 127 PWMB (hiz), 128 PWMA (hiz), 129 PAI (in), 130 IC4/OC5/OC1/PGP7 (io), 131 OC4/OC1/PGP6 (io), 132 OC3/OC1/PGP5 (io)
part B pins: 1 VDD (power), 2 VSS (power), 8 VDD (power), 9 VSS (power), 21 VDD (power), 22 VSS (power), 29 VSS (power), 40 VDD (power), 41 VSS (power), 58 VSS (power), 59 VDD (power), 61 VDD (power), 62 VSS (power), 83 VSS (power), 84 VDD (power), 97 VSS (power), 98 VDD (power), 105 VSS (power), 112 VSS (power), 113 VDD (power), 124 VDD (power), 125 VSS (power)

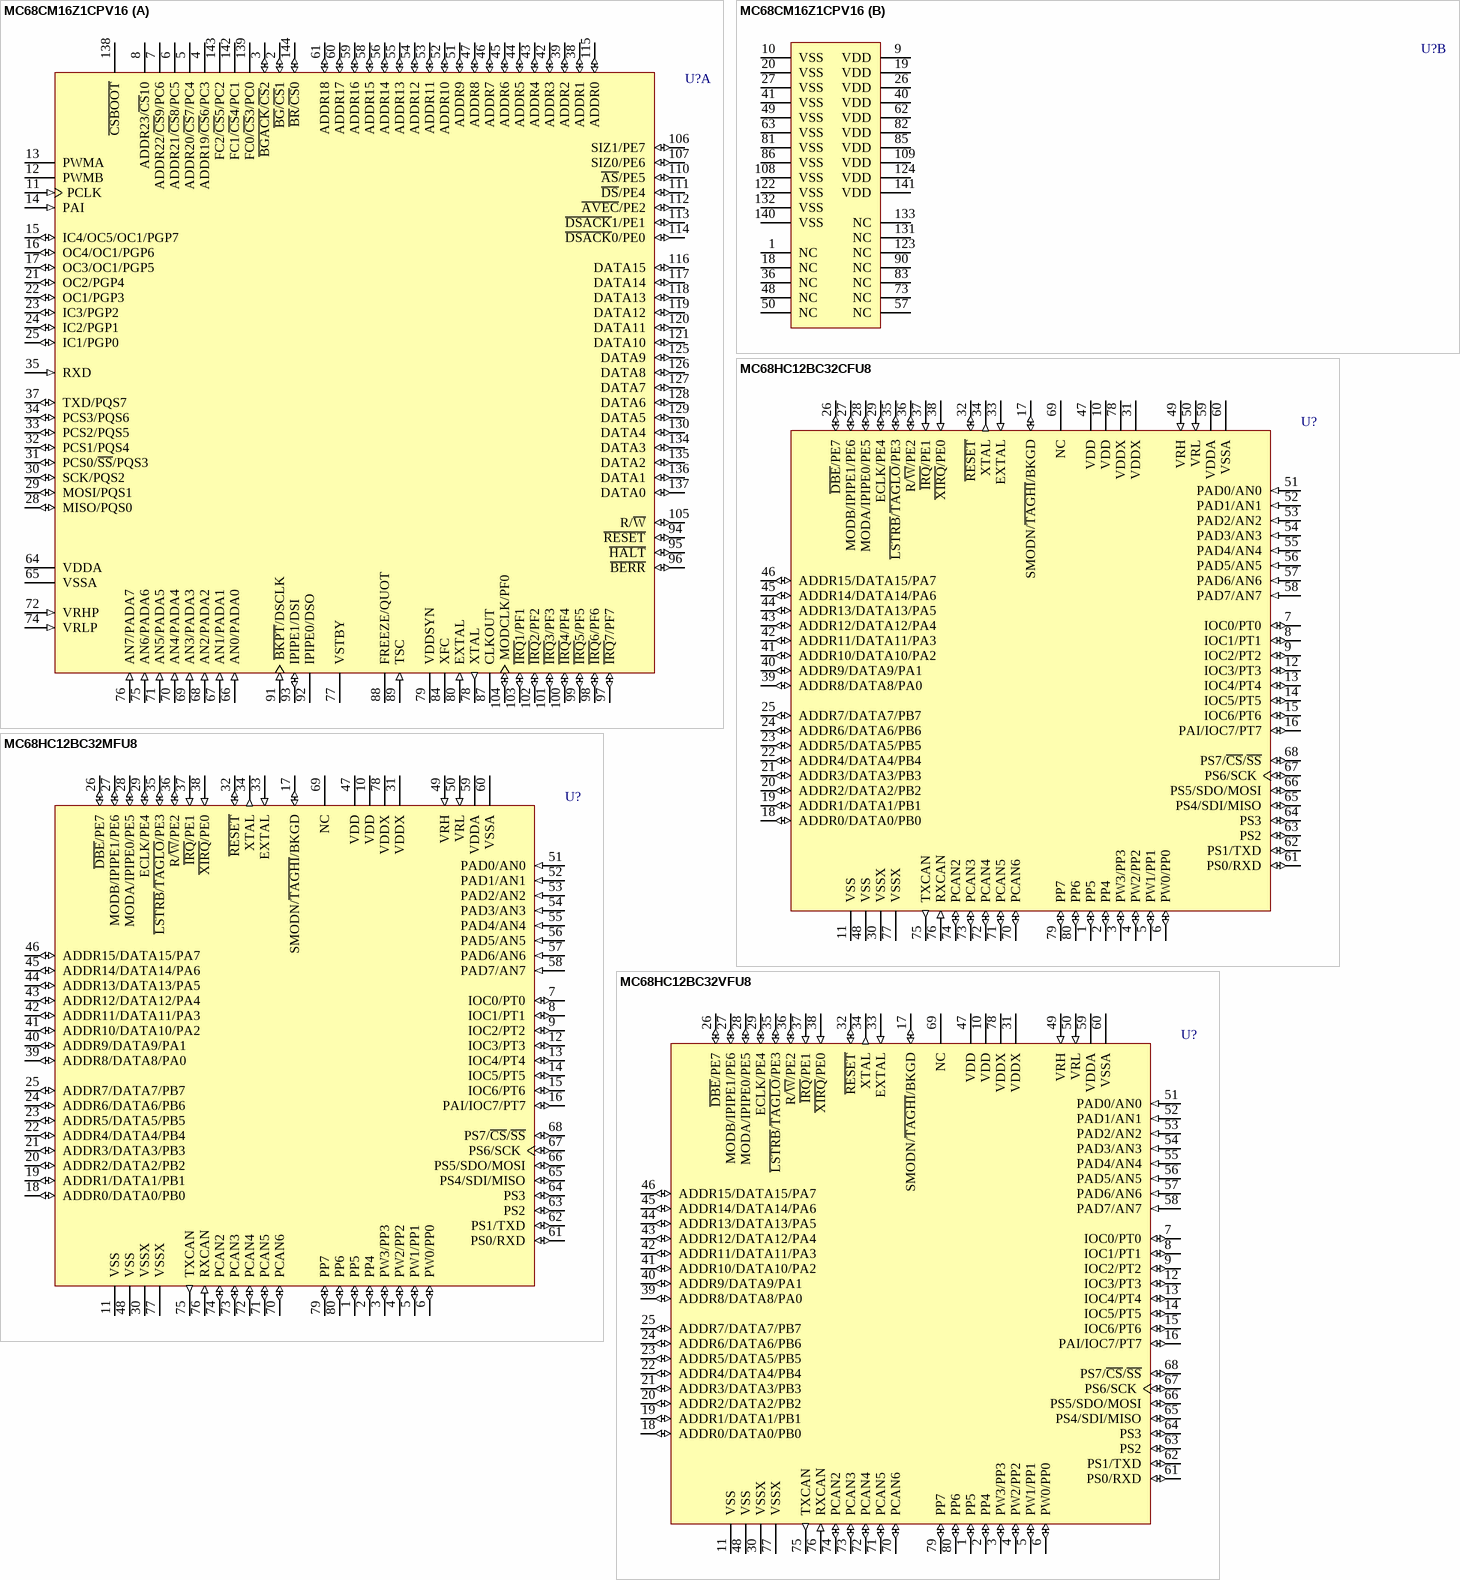
[diagram p26: symbols MC68CM16Z1CPV16 to MC68HC12BC32VFU8]

## MC68CM16Z1CPV16
designator U?
M68HC16 Z-Series MCU; PackageDocument: 1997; Published: 21-Mar-2003; LatestRevisionDate: 6-Jun-2005; LatestRevisionNote: Stylized 3D Model Added.; DatasheetDocument: Oct-1997; PackageReference: 918; Publisher: Altium Limited; Code_IPC: SQFP20X20-144; ComponentLink1Description: Manufacturer Link; ComponentLink1URL: http://www.freescale.com/; ComponentLink2Description: Datasheet; ComponentLink2URL: http://www.freescale.com/files/microcontrollers/doc/user_guide/MC68HC16ZUM.pdf; ComponentLink3Description: Instruction Set; ComponentLink3URL: http://www.freescale.com/files/microcontrollers/doc/ref_manual/CPU16RM.pdf
footprint 918 (QFP; 144 Leads; Body 20 x 20 mm; Pitch 0.5 mm)
3D model MC68CM16-918 (QFP; 144 Leads; Body 20 x 20 mm; Pitch 0.5 mm)
part A pins: 2 ~{BG}/~{CS}1 (io), 3 ~{BGACK}/~{CS}2 (io), 4 ADDR19/~{CS}6/PC3 (hiz), 5 ADDR20/~{CS}7/PC4 (hiz), 6 ADDR21/~{CS}8/PC5 (hiz), 7 ADDR22/~{CS}9/PC6 (hiz), 8 ADDR23/~{CS}10 (hiz), 11 PCLK (in), 12 PWMB (hiz), 13 PWMA (hiz), 14 PAI (in), 15 IC4/OC5/OC1/PGP7 (io), 16 OC4/OC1/PGP6 (io), 17 OC3/OC1/PGP5 (io), 21 OC2/PGP4 (io), 22 OC1/PGP3 (io), 23 IC3/PGP2 (io), 24 IC2/PGP1 (io), 25 IC1/PGP0 (io), 28 MISO/PQS0 (io), 29 MOSI/PQS1 (io), 30 SCK/PQS2 (io), 31 PCS0/~{SS}/PQS3 (io), 32 PCS1/PQS4 (io), 33 PCS2/PQS5 (io), 34 PCS3/PQS6 (io), 35 RXD (in), 37 TXD/PQS7 (io), 38 ADDR1 (io), 39 ADDR2 (io), 42 ADDR3 (io), 43 ADDR4 (io), 44 ADDR5 (io), 45 ADDR6 (io), 46 ADDR7 (io), 47 ADDR8 (io), 51 ADDR9 (io), 52 ADDR10 (io), 53 ADDR11 (io), 54 ADDR12 (io), 55 ADDR13 (io), 56 ADDR14 (io), 58 ADDR15 (io), 59 ADDR16 (io), 60 ADDR17 (io), 61 ADDR18 (io), 64 VDDA (power), 65 VSSA (power), 66 AN0/PADA0 (in), 67 AN1/PADA1 (in), 68 AN2/PADA2 (in), 69 AN3/PADA3 (in), 70 AN4/PADA4 (in), 71 AN5/PADA5 (in), 72 VRHP (in), 74 VRLP (in), 75 AN6/PADA6 (in), 76 AN7/PADA7 (in), 77 VSTBY (power), 78 XTAL (out), 79 VDDSYN (power), 80 EXTAL (in), 84 XFC, 87 CLKOUT (hiz), 88 FREEZE/QUOT (hiz), 89 TSC (in), 91 ~{BKPT}/DSCLK (in), 92 IPIPE0/DSO (hiz), 93 IPIPE1/DSI (io), 94 ~{RESET} (io), 95 ~{HALT} (io), 96 ~{BERR} (io), 97 ~{IRQ}7/PF7 (io), 98 ~{IRQ}6/PF6 (io), 99 ~{IRQ}5/PF5 (io), 100 ~{IRQ}4/PF4 (io), 101 ~{IRQ}3/PF3 (io), 102 ~{IRQ}2/PF2 (io), 103 ~{IRQ}1/PF1 (io), 104 MODCLK/PF0 (io), 105 R/~{W} (io), 106 SIZ1/PE7 (io), 107 SIZ0/PE6 (io), 110 ~{AS}/PE5 (io), 111 ~{DS}/PE4 (io), 112 ~{AVEC}/PE2 (io), 113 ~{DSACK}1/PE1 (io), 114 ~{DSACK}0/PE0 (io), 115 ADDR0 (io), 116 DATA15 (io), 117 DATA14 (io), 118 DATA13 (io), 119 DATA12 (io), 120 DATA11 (io), 121 DATA10 (io), 125 DATA9 (io), 126 DATA8 (io), 127 DATA7 (io), 128 DATA6 (io), 129 DATA5 (io), 130 DATA4 (io), 134 DATA3 (io), 135 DATA2 (io), 136 DATA1 (io), 137 DATA0 (io), 138 ~{CSBOOT} (hiz), 139 FC0/~{CS}3/PC0 (hiz), 142 FC1/~{CS}4/PC1 (hiz), 143 FC2/~{CS}5/PC2 (hiz), 144 ~{BR}/~{CS}0 (io)
part B pins: 1 NC, 9 VDD (power), 10 VSS (power), 18 NC, 19 VDD (power), 20 VSS (power), 26 VDD (power), 27 VSS (power), 36 NC, 40 VDD (power), 41 VSS (power), 48 NC, 49 VSS (power), 50 NC, 57 NC, 62 VDD (power), 63 VSS (power), 73 NC, 81 VSS (power), 82 VDD (power), 83 NC, 85 VDD (power), 86 VSS (power), 90 NC, 108 VSS (power), 109 VDD (power), 122 VSS (power), 123 NC, 124 VDD (power), 131 NC, 132 VSS (power), 133 NC, 140 VSS (power), 141 VDD (power)